# Altium schematic symbol library Connector.SchLib: 365 symbols (part 3 of 4)
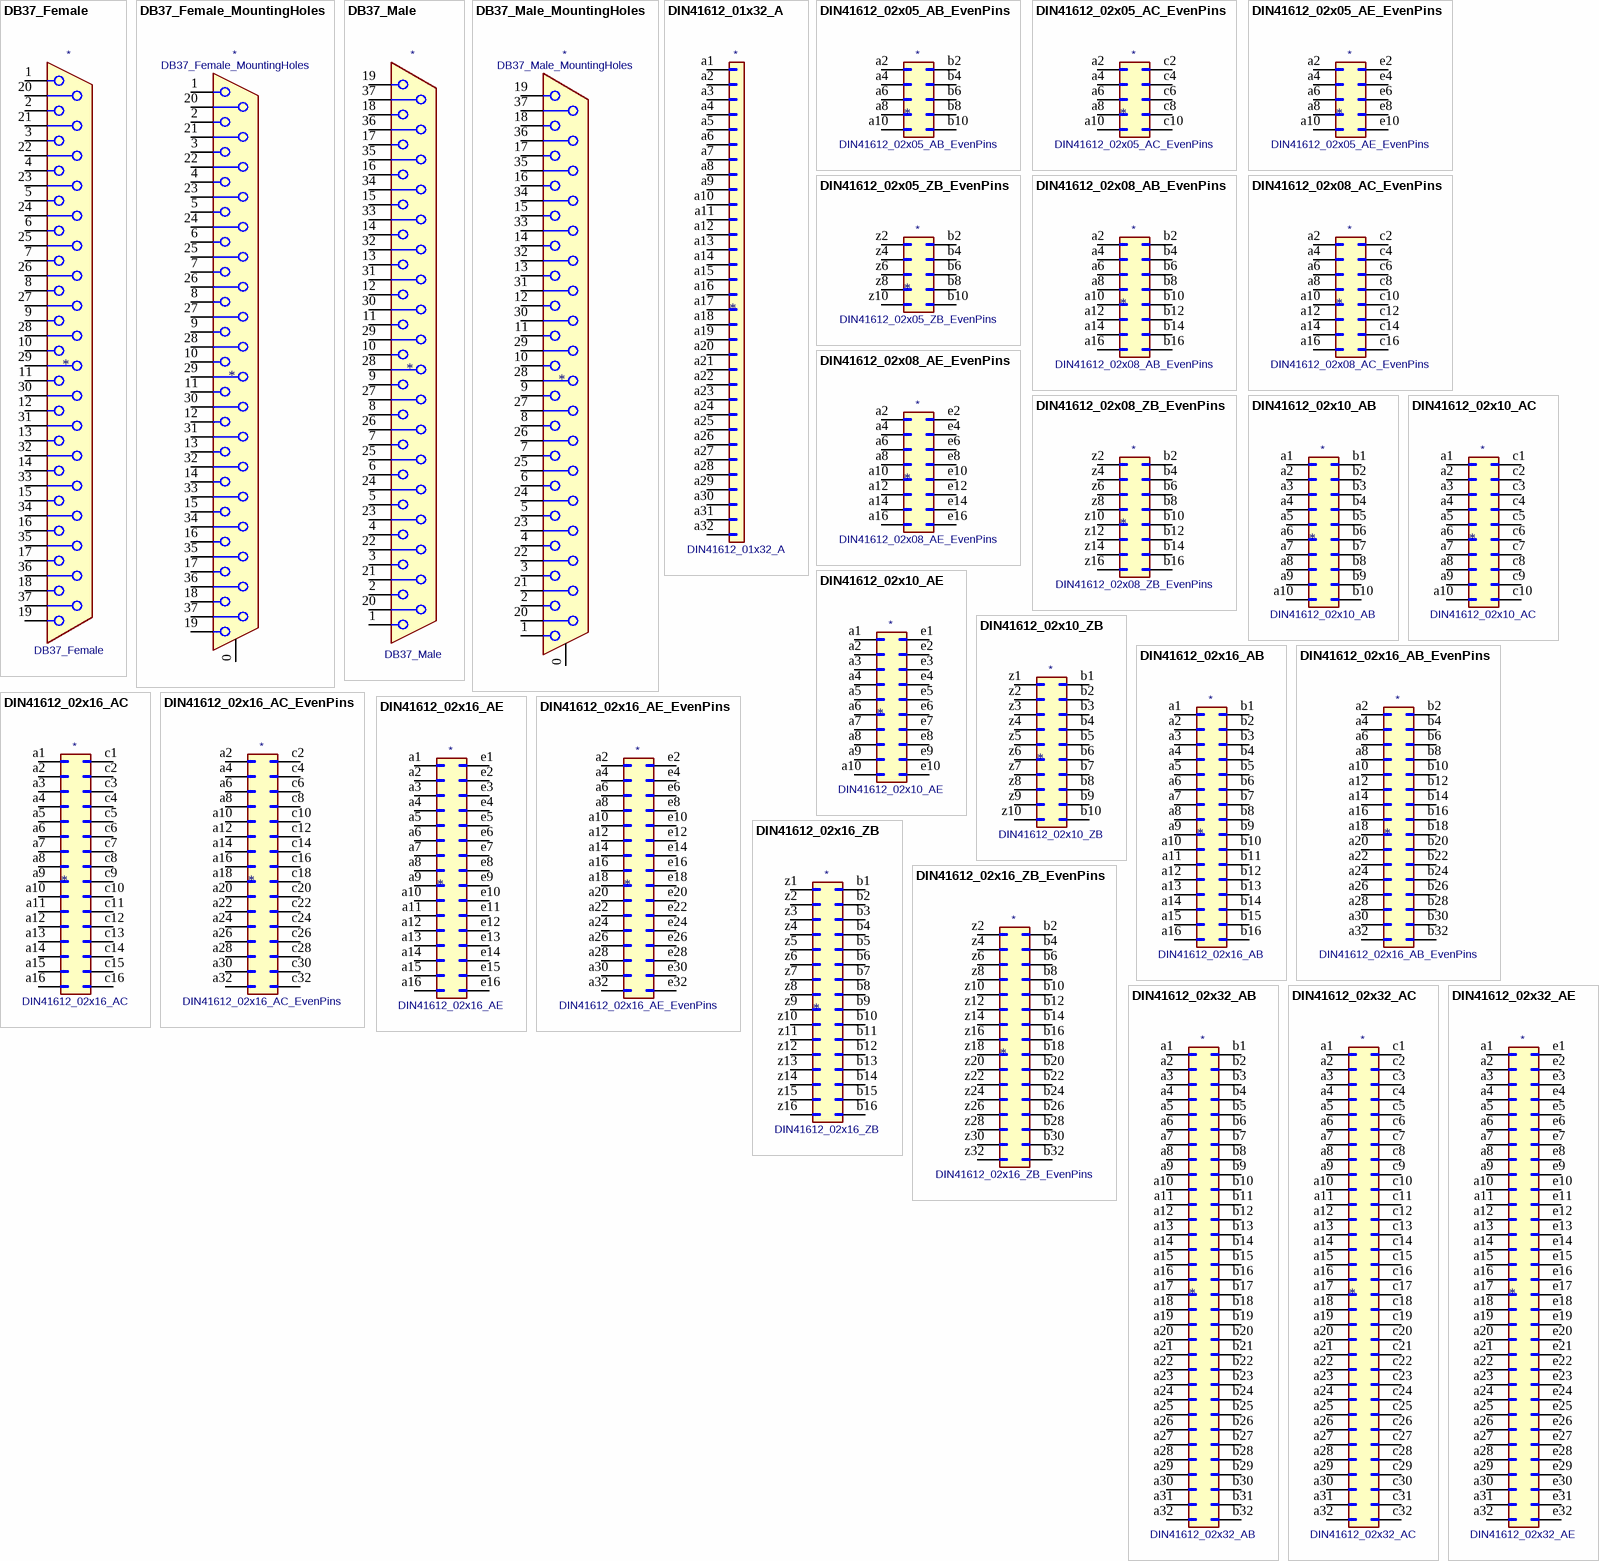
[diagram p16: symbols DB37_Female to DIN41612_02x32_AE]

## DIN41612_02x32_AE
designator *  value DIN41612_02x32_AE
ki_keywords: connector; ki_description: DIN41612 connector, double row (AE), 02x32, script generated (kicad-library-utils/schlib/autogen/connector/); ki_fp_filters: DIN41612*2x*; Supplier: ~
pins: a1 Pin_a1, a2 Pin_a2, a3 Pin_a3, a4 Pin_a4, a5 Pin_a5, a6 Pin_a6, a7 Pin_a7, a8 Pin_a8, a9 Pin_a9, a10 Pin_a10, a11 Pin_a11, a12 Pin_a12, a13 Pin_a13, a14 Pin_a14, a15 Pin_a15, a16 Pin_a16, a17 Pin_a17, a18 Pin_a18, a19 Pin_a19, a20 Pin_a20, a21 Pin_a21, a22 Pin_a22, a23 Pin_a23, a24 Pin_a24, a25 Pin_a25, a26 Pin_a26, a27 Pin_a27, a28 Pin_a28, a29 Pin_a29, a30 Pin_a30, a31 Pin_a31, a32 Pin_a32, e1 Pin_e1, e2 Pin_e2, e3 Pin_e3, e4 Pin_e4, e5 Pin_e5, e6 Pin_e6, e7 Pin_e7, e8 Pin_e8, e9 Pin_e9, e10 Pin_e10, e11 Pin_e11, e12 Pin_e12, e13 Pin_e13, e14 Pin_e14, e15 Pin_e15, e16 Pin_e16, e17 Pin_e17, e18 Pin_e18, e19 Pin_e19, e20 Pin_e20, e21 Pin_e21, e22 Pin_e22, e23 Pin_e23, e24 Pin_e24, e25 Pin_e25, e26 Pin_e26, e27 Pin_e27, e28 Pin_e28, e29 Pin_e29, e30 Pin_e30, e31 Pin_e31, e32 Pin_e32

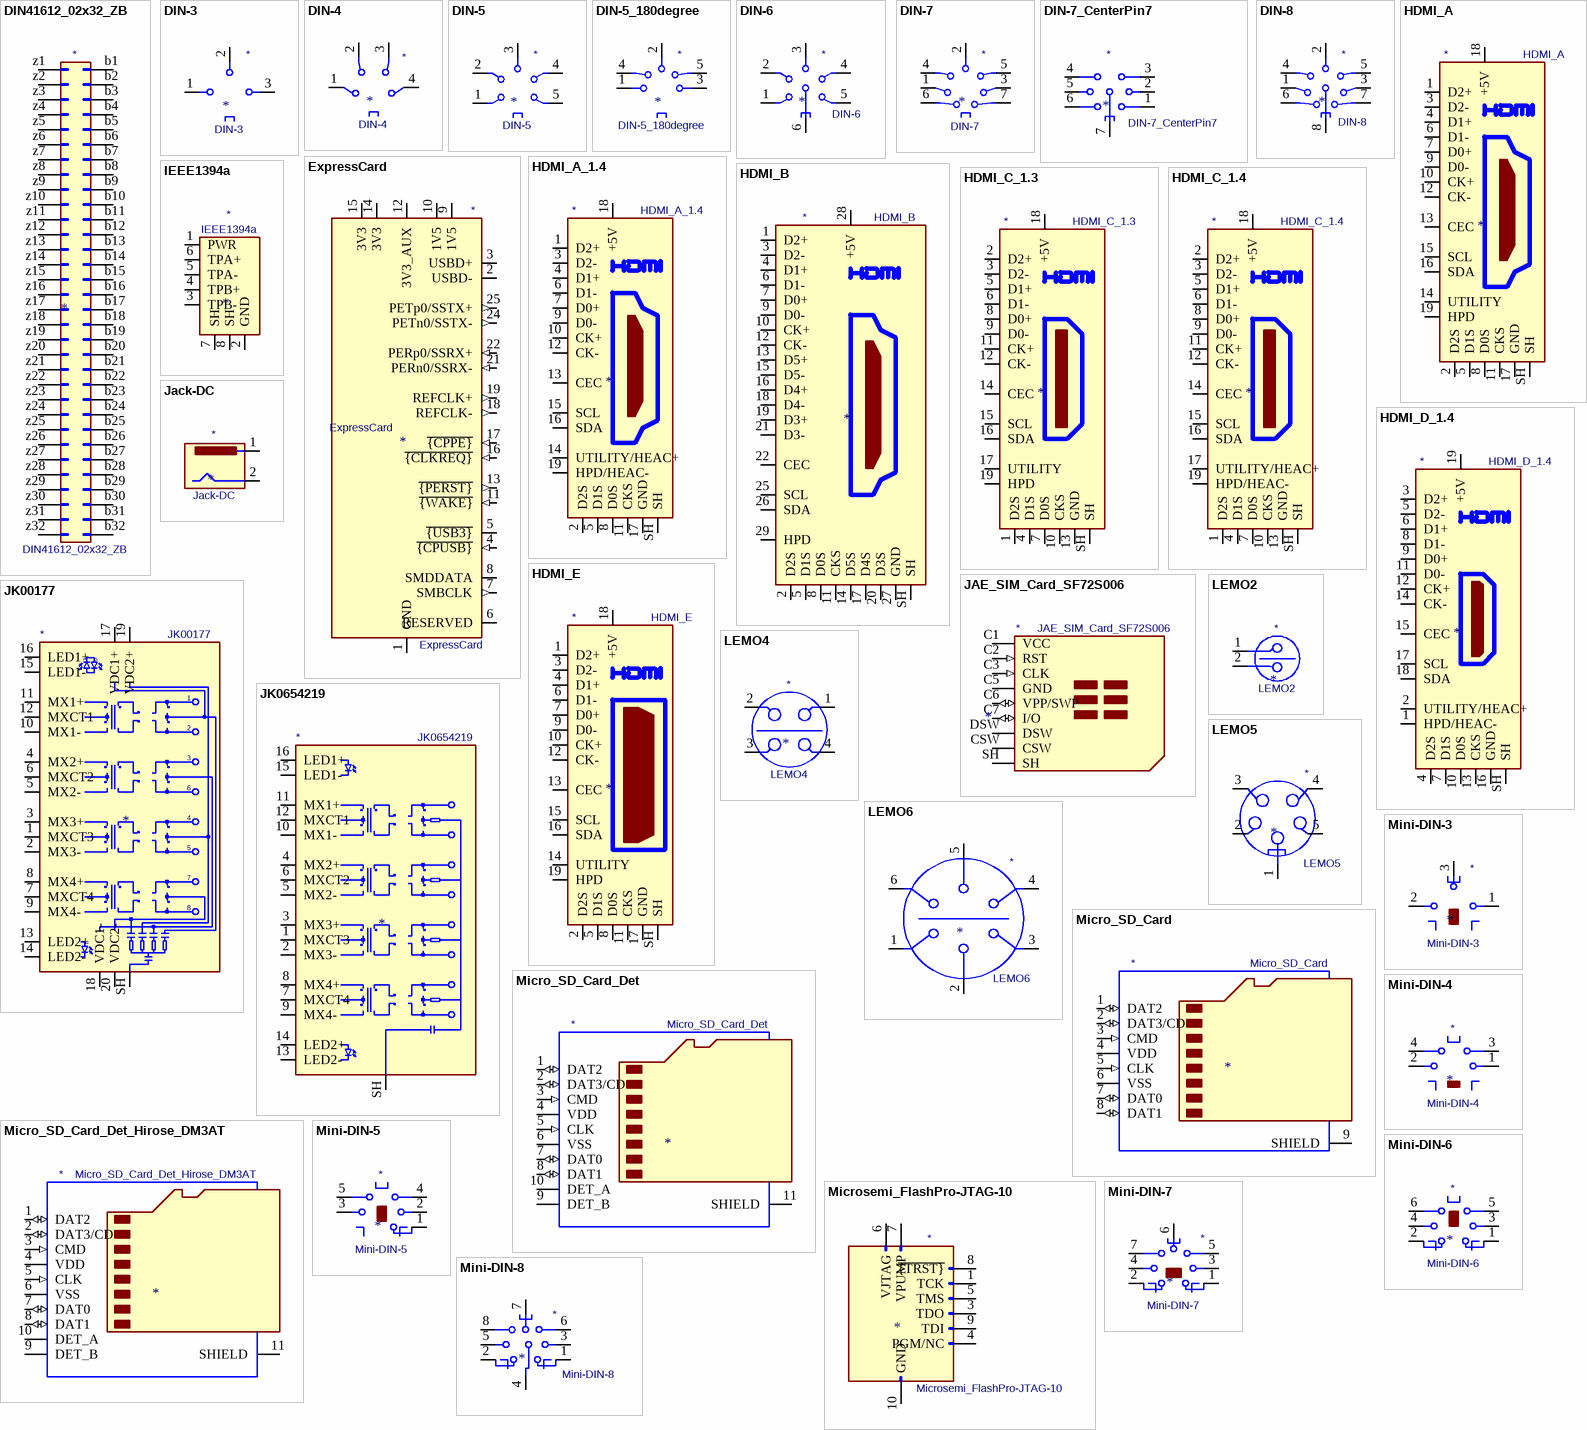
[diagram p8: symbols DIN41612_02x32_ZB to Mini-DIN-8]

## DIN41612_02x32_ZB
designator *  value DIN41612_02x32_ZB
ki_keywords: connector; ki_description: DIN41612 connector, double row (ZB), 02x32, script generated (kicad-library-utils/schlib/autogen/connector/); ki_fp_filters: DIN41612*2x*; Supplier: ~
pins: b1 Pin_b1, b2 Pin_b2, b3 Pin_b3, b4 Pin_b4, b5 Pin_b5, b6 Pin_b6, b7 Pin_b7, b8 Pin_b8, b9 Pin_b9, b10 Pin_b10, b11 Pin_b11, b12 Pin_b12, b13 Pin_b13, b14 Pin_b14, b15 Pin_b15, b16 Pin_b16, b17 Pin_b17, b18 Pin_b18, b19 Pin_b19, b20 Pin_b20, b21 Pin_b21, b22 Pin_b22, b23 Pin_b23, b24 Pin_b24, b25 Pin_b25, b26 Pin_b26, b27 Pin_b27, b28 Pin_b28, b29 Pin_b29, b30 Pin_b30, b31 Pin_b31, b32 Pin_b32, z1 Pin_z1, z2 Pin_z2, z3 Pin_z3, z4 Pin_z4, z5 Pin_z5, z6 Pin_z6, z7 Pin_z7, z8 Pin_z8, z9 Pin_z9, z10 Pin_z10, z11 Pin_z11, z12 Pin_z12, z13 Pin_z13, z14 Pin_z14, z15 Pin_z15, z16 Pin_z16, z17 Pin_z17, z18 Pin_z18, z19 Pin_z19, z20 Pin_z20, z21 Pin_z21, z22 Pin_z22, z23 Pin_z23, z24 Pin_z24, z25 Pin_z25, z26 Pin_z26, z27 Pin_z27, z28 Pin_z28, z29 Pin_z29, z30 Pin_z30, z31 Pin_z31, z32 Pin_z32

## DIN-3
designator *  value DIN-3
ki_keywords: circular DIN connector; ki_description: 3-pin DIN connector; ki_fp_filters: DIN*; Supplier: http://www.mouser.com/ds/2/18/40_c091_abd_e-75918.pdf
pins: 1, 2, 3

## DIN-4
designator *  value DIN-4
ki_keywords: circular DIN connector; ki_description: 4-pin DIN connector; ki_fp_filters: DIN*; Supplier: http://www.mouser.com/ds/2/18/40_c091_abd_e-75918.pdf
pins: 1, 2, 3, 4

## DIN-5
designator *  value DIN-5
ki_keywords: circular DIN connector; ki_description: 5-pin DIN connector; ki_fp_filters: DIN*; Supplier: http://www.mouser.com/ds/2/18/40_c091_abd_e-75918.pdf
pins: 1, 2, 3, 4, 5

## DIN-5_180degree
designator *  value DIN-5_180degree
ki_keywords: circular DIN connector stereo audio; ki_description: 5-pin DIN connector (5-pin DIN-5 stereo); ki_fp_filters: DIN*; Supplier: http://www.mouser.com/ds/2/18/40_c091_abd_e-75918.pdf
pins: 1, 2, 3, 4, 5

## DIN-6
designator *  value DIN-6
ki_keywords: circular DIN connector; ki_description: 6-pin DIN connector; ki_fp_filters: DIN*; Supplier: http://www.mouser.com/ds/2/18/40_c091_abd_e-75918.pdf
pins: 1, 2, 3, 4, 5, 6

## DIN-7
designator *  value DIN-7
ki_keywords: circular DIN connector; ki_description: 7-pin DIN connector; ki_fp_filters: DIN*; Supplier: http://www.mouser.com/ds/2/18/40_c091_abd_e-75918.pdf
pins: 1, 2, 3, 4, 5, 6, 7

## DIN-7_CenterPin7
designator *  value DIN-7_CenterPin7
ki_keywords: circular DIN connector; ki_description: 7-pin DIN connector with pin 7 in center; ki_fp_filters: DIN*; Supplier: http://www.mouser.com/ds/2/18/40_c091_abd_e-75918.pdf
pins: 1, 2, 3, 4, 5, 6, 7

## DIN-8
designator *  value DIN-8
ki_keywords: circular DIN connector; ki_description: 8-pin DIN connector; ki_fp_filters: DIN*; Supplier: http://www.mouser.com/ds/2/18/40_c091_abd_e-75918.pdf
pins: 1, 2, 3, 4, 5, 6, 7, 8

## ExpressCard
designator *  value ExpressCard
ki_keywords: expresscard pci express; ki_description: ExpressCard connector; ki_fp_filters: ExpressCard*; Supplier: https://web.archive.org/web/20180809060653/http://www.usb.org/developers/expresscard/EC_specifications/ExpressCard_2_0_FINAL.pdf
pins: 1 GND (power), 2 USBD- (io), 3 USBD+ (io), 4 ~{{CPUSB}} (in), 5 ~{{USB3}} (io), 6 RESERVED, 7 SMBCLK (out), 8 SMDDATA (io), 9 1V5 (power), 10 1V5 (power), 11 ~{{WAKE}} (in), 12 3V3_AUX (power), 13 ~{{PERST}} (out), 14 3V3 (power), 15 3V3 (power), 16 ~{{CLKREQ}} (in), 17 ~{{CPPE}} (in), 18 REFCLK- (out), 19 REFCLK+ (out), 20 GND hidden, 21 PERn0/SSRX- (in), 22 PERp0/SSRX+ (in), 23 GND hidden, 24 PETn0/SSTX- (out), 25 PETp0/SSTX+ (out), 26 GND hidden

## HDMI_A
designator *  value HDMI_A
ki_keywords: hdmi conn; ki_description: HDMI type A connector; ki_fp_filters: HDMI*A*; Supplier: https://en.wikipedia.org/wiki/HDMI
pins: 1 D2+, 2 D2S (power), 3 D2-, 4 D1+, 5 D1S (power), 6 D1-, 7 D0+, 8 D0S (power), 9 D0-, 10 CK+, 11 CKS (power), 12 CK-, 13 CEC (io), 14 UTILITY, 15 SCL, 16 SDA (io), 17 GND (power), 18 +5V (power), 19 HPD, SH

## HDMI_A_1.4
designator *  value HDMI_A_1.4
ki_keywords: hdmi conn; ki_description: HDMI 1.4+ type A connector; ki_fp_filters: HDMI*A*; Supplier: https://en.wikipedia.org/wiki/HDMI
pins: 1 D2+, 2 D2S (power), 3 D2-, 4 D1+, 5 D1S (power), 6 D1-, 7 D0+, 8 D0S (power), 9 D0-, 10 CK+, 11 CKS (power), 12 CK-, 13 CEC (io), 14 UTILITY/HEAC+, 15 SCL, 16 SDA (io), 17 GND (power), 18 +5V (power), 19 HPD/HEAC-, SH

## HDMI_B
designator *  value HDMI_B
ki_keywords: hdmi conn; ki_description: HDMI type B connector; ki_fp_filters: HDMI*B*; Supplier: http://pinouts.ru/Video/hdmi_pinout.shtml
pins: 1 D2+, 2 D2S (power), 3 D2-, 4 D1+, 5 D1S (power), 6 D1-, 7 D0+, 8 D0S (power), 9 D0-, 10 CK+, 11 CKS (power), 12 CK-, 13 D5+, 14 D5S (power), 15 D5-, 16 D4+, 17 D4S (power), 18 D4-, 19 D3+, 20 D3S (power), 21 D3-, 22 CEC (io), 23 NC (in) hidden, 24 NC (in) hidden, 25 SCL, 26 SDA (io), 27 GND (power), 28 +5V (power), 29 HPD, SH

## HDMI_C_1.3
designator *  value HDMI_C_1.3
ki_keywords: hdmi conn; ki_description: HDMI 1.3+ type C connector; ki_fp_filters: HDMI*C*; Supplier: http://pinoutguide.com/PortableDevices/mini_hdmi_pinout.shtml
pins: 1 D2S (power), 2 D2+, 3 D2-, 4 D1S (power), 5 D1+, 6 D1-, 7 D0S (power), 8 D0+, 9 D0-, 10 CKS (power), 11 CK+, 12 CK-, 13 GND (power), 14 CEC (io), 15 SCL, 16 SDA (io), 17 UTILITY, 18 +5V (power), 19 HPD, SH

## HDMI_C_1.4
designator *  value HDMI_C_1.4
ki_keywords: hdmi conn; ki_description: HDMI 1.4+ type C connector; ki_fp_filters: HDMI*C*; Supplier: http://pinoutguide.com/PortableDevices/mini_hdmi_pinout.shtml
pins: 1 D2S (power), 2 D2+, 3 D2-, 4 D1S (power), 5 D1+, 6 D1-, 7 D0S (power), 8 D0+, 9 D0-, 10 CKS (power), 11 CK+, 12 CK-, 13 GND (power), 14 CEC (io), 15 SCL, 16 SDA (io), 17 UTILITY/HEAC+, 18 +5V (power), 19 HPD/HEAC-, SH

## HDMI_D_1.4
designator *  value HDMI_D_1.4
ki_keywords: hdmi conn; ki_description: HDMI 1.4+ type D connector; ki_fp_filters: HDMI*D*; Supplier: http://pinoutguide.com/PortableDevices/micro_hdmi_type_d_pinout.shtml
pins: 1 HPD/HEAC-, 2 UTILITY/HEAC+, 3 D2+, 4 D2S (power), 5 D2-, 6 D1+, 7 D1S (power), 8 D1-, 9 D0+, 10 D0S (power), 11 D0-, 12 CK+, 13 CKS (power), 14 CK-, 15 CEC (io), 16 GND (power), 17 SCL, 18 SDA (io), 19 +5V (power), SH

## HDMI_E
designator *  value HDMI_E
ki_keywords: hdmi conn; ki_description: HDMI type E connector; ki_fp_filters: HDMI*E*; Supplier: https://www.hdmi.org/manufacturer/specification.aspx
pins: 1 D2+, 2 D2S (power), 3 D2-, 4 D1+, 5 D1S (power), 6 D1-, 7 D0+, 8 D0S (power), 9 D0-, 10 CK+, 11 CKS (power), 12 CK-, 13 CEC (io), 14 UTILITY, 15 SCL, 16 SDA (io), 17 GND (power), 18 +5V (power), 19 HPD, SH

## IEEE1394a
designator *  value IEEE1394a
ki_keywords: connector IEEE1394a FireWire; ki_description: FireWire/IEEE1394a 6-pin connector; Supplier: ~
pins: 1 PWR (power), 2 GND (power), 3 TPB- (io), 4 TPB+ (io), 5 TPA- (io), 6 TPA+ (io), 7 SH, 8 SH

## Jack-DC
designator *  value Jack-DC
ki_keywords: DC power barrel jack connector; ki_description: DC Barrel Jack; ki_fp_filters: BarrelJack*; Supplier: ~
pins: 1, 2

## JAE_SIM_Card_SF72S006
designator *  value JAE_SIM_Card_SF72S006
ki_keywords: SIM card UICC 4FF; ki_description: Nano-SIM Card (4FF) connector with Detect Switch; ki_fp_filters: JAE*SIM*Card*SF72S006*; Footprint: Connector_JAE:JAE_SIM_Card_SF72S006; Supplier: https://www.jae.com/direct/topics/topics_file_download/topics_id=68892&ext_no=06&index=0&_lang=en&v=202003111511468456809
footprint JAE_SIM_Card_SF72S006
pins: C1 VCC (power), C2 RST (in), C3 CLK (in), C5 GND (power), C6 VPP/SWP (io), C7 I/O (io), CSW, DSW, SH

## JK00177
designator *  value JK00177
ki_keywords: 8P8C RJ female connector POE; ki_description: 1 Port RJ45 Magjack Connector Through Hole 10/100/1000 Base-T, AutoMDIX, 75W POE; ki_fp_filters: RJ45*Pulse*JK00177NL*; Footprint: Connector_RJ:RJ45_Pulse_JK00177NL_Horizontal; Supplier: https://productfinder.pulseeng.com/doc_type/WEB301/doc_num/J432/doc_part/J432.pdf
footprint RJ45_Pulse_JK00177NL_Horizontal
pins: 1 MXCT3, 2 MX3-, 3 MX3+, 4 MX2+, 5 MX2-, 6 MXCT2, 7 MXCT4, 8 MX4+, 9 MX4-, 10 MX1-, 11 MX1+, 12 MXCT1, 13 LED2+, 14 LED2-, 15 LED1-, 16 LED1+, 17 VDC1+, 18 VDC1-, 19 VDC2+, 20 VDC2-, SH
text: Y; G

## JK0654219
designator *  value JK0654219
ki_keywords: 8P8C RJ female connector; ki_description: 1 Port RJ45 Magjack Connector Through Hole 10/100/1000 Base-T, AutoMDIX; ki_fp_filters: RJ45*Pulse*JK0654219NL*; Footprint: Connector_RJ:RJ45_Pulse_JK0654219NL_Horizontal; Supplier: https://media.digikey.com/pdf/Data%20Sheets/Pulse%20PDFs/JK%20Series.pdf
footprint RJ45_Pulse_JK0654219NL_Horizontal
pins: 1 MXCT3, 2 MX3-, 3 MX3+, 4 MX2+, 5 MX2-, 6 MXCT2, 7 MXCT4, 8 MX4+, 9 MX4-, 10 MX1-, 11 MX1+, 12 MXCT1, 13 LED2-, 14 LED2+, 15 LED1-, 16 LED1+, SH

## LEMO2
designator *  value LEMO2
ki_keywords: LEMO connector; ki_description: 2-pin LEMO connector; Supplier: ~
pins: 1, 2

## LEMO4
designator *  value LEMO4
ki_keywords: LEMO connector; ki_description: 4-pin LEMO connector; Supplier: ~
pins: 1, 2, 3, 4

## LEMO5
designator *  value LEMO5
ki_keywords: LEMO connector; ki_description: 5-pin LEMO connector; Supplier: ~
pins: 1, 2, 3, 4, 5

## LEMO6
designator *  value LEMO6
ki_keywords: LEMO connector; ki_description: 6-pin LEMO connector; Supplier: ~
pins: 1, 2, 3, 4, 5, 6

## Micro_SD_Card
designator *  value Micro_SD_Card
ki_keywords: connector SD microsd; ki_description: Micro SD Card Socket; ki_fp_filters: microSD*; Supplier: http://katalog.we-online.de/em/datasheet/693072010801.pdf
pins: 1 DAT2 (io), 2 DAT3/CD (io), 3 CMD (in), 4 VDD (power), 5 CLK (in), 6 VSS (power), 7 DAT0 (io), 8 DAT1 (io), 9 SHIELD

## Micro_SD_Card_Det
designator *  value Micro_SD_Card_Det
ki_keywords: connector SD microsd; ki_description: Micro SD Card Socket with card detection pins; ki_fp_filters: microSD*; Supplier: https://www.hirose.com/product/en/download_file/key_name/DM3/category/Catalog/doc_file_id/49662/?file_category_id=4&item_id=195&is_series=1
pins: 1 DAT2 (io), 2 DAT3/CD (io), 3 CMD (in), 4 VDD (power), 5 CLK (in), 6 VSS (power), 7 DAT0 (io), 8 DAT1 (io), 9 DET_B, 10 DET_A, 11 SHIELD

## Micro_SD_Card_Det_Hirose_DM3AT
designator *  value Micro_SD_Card_Det_Hirose_DM3AT
ki_keywords: connector SD microsd; ki_description: Micro SD Card Socket with card detection pins; ki_fp_filters: microSD*; Supplier: https://www.hirose.com/product/en/download_file/key_name/DM3/category/Catalog/doc_file_id/49662/?file_category_id=4&item_id=195&is_series=1
pins: 1 DAT2 (io), 2 DAT3/CD (io), 3 CMD (in), 4 VDD (power), 5 CLK (in), 6 VSS (power), 7 DAT0 (io), 8 DAT1 (io), 9 DET_B, 10 DET_A, 11 SHIELD

## Microsemi_FlashPro-JTAG-10
designator *  value Microsemi_FlashPro-JTAG-10
ki_keywords: JTAG IDC10 Male Connector; ki_description: ACTEL FLASH PRO 3/4, JTAG, IDC10 Male Connector; ki_fp_filters: IDC?Header*2x05* Pin?Header*2x05*; Supplier: https://www.microsemi.com/document-portal/doc_view/129973-lpf-ac386-an
pins: 1 TCK, 2 GND hidden, 3 TDO, 4 PGM/NC, 5 TMS, 6 VJTAG (power), 7 VPUMP (power), 8 ~{{TRST}}, 9 TDI, 10 GND (power)

## Mini-DIN-3
designator *  value Mini-DIN-3
ki_keywords: Mini-DIN; ki_description: 3-pin Mini-DIN connector; ki_fp_filters: MINI?DIN*; Supplier: http://www.assmann-wsw.com/fileadmin/catalogue/10_MiniDIN_rev4-0.pdf
pins: 1, 2, 3

## Mini-DIN-4
designator *  value Mini-DIN-4
ki_keywords: Mini-DIN; ki_description: 4-pin Mini-DIN connector; ki_fp_filters: MINI?DIN*; Supplier: http://service.powerdynamics.com/ec/Catalog17/Section%2011.pdf
pins: 1, 2, 3, 4

## Mini-DIN-5
designator *  value Mini-DIN-5
ki_keywords: Mini-DIN; ki_description: 5-pin Mini-DIN connector; ki_fp_filters: MINI?DIN*; Supplier: http://service.powerdynamics.com/ec/Catalog17/Section%2011.pdf
pins: 1, 2, 3, 4, 5

## Mini-DIN-6
designator *  value Mini-DIN-6
ki_keywords: Mini-DIN; ki_description: 6-pin Mini-DIN connector; ki_fp_filters: MINI?DIN*; Supplier: http://service.powerdynamics.com/ec/Catalog17/Section%2011.pdf
pins: 1, 2, 3, 4, 5, 6

## Mini-DIN-7
designator *  value Mini-DIN-7
ki_keywords: Mini-DIN; ki_description: 7-pin Mini-DIN connector; ki_fp_filters: MINI?DIN*; Supplier: http://service.powerdynamics.com/ec/Catalog17/Section%2011.pdf
pins: 1, 2, 3, 4, 5, 6, 7

## Mini-DIN-8
designator *  value Mini-DIN-8
ki_keywords: Mini-DIN; ki_description: 8-pin Mini-DIN connector; ki_fp_filters: MINI?DIN*; Supplier: http://service.powerdynamics.com/ec/Catalog17/Section%2011.pdf
pins: 1, 2, 3, 4, 5, 6, 7, 8

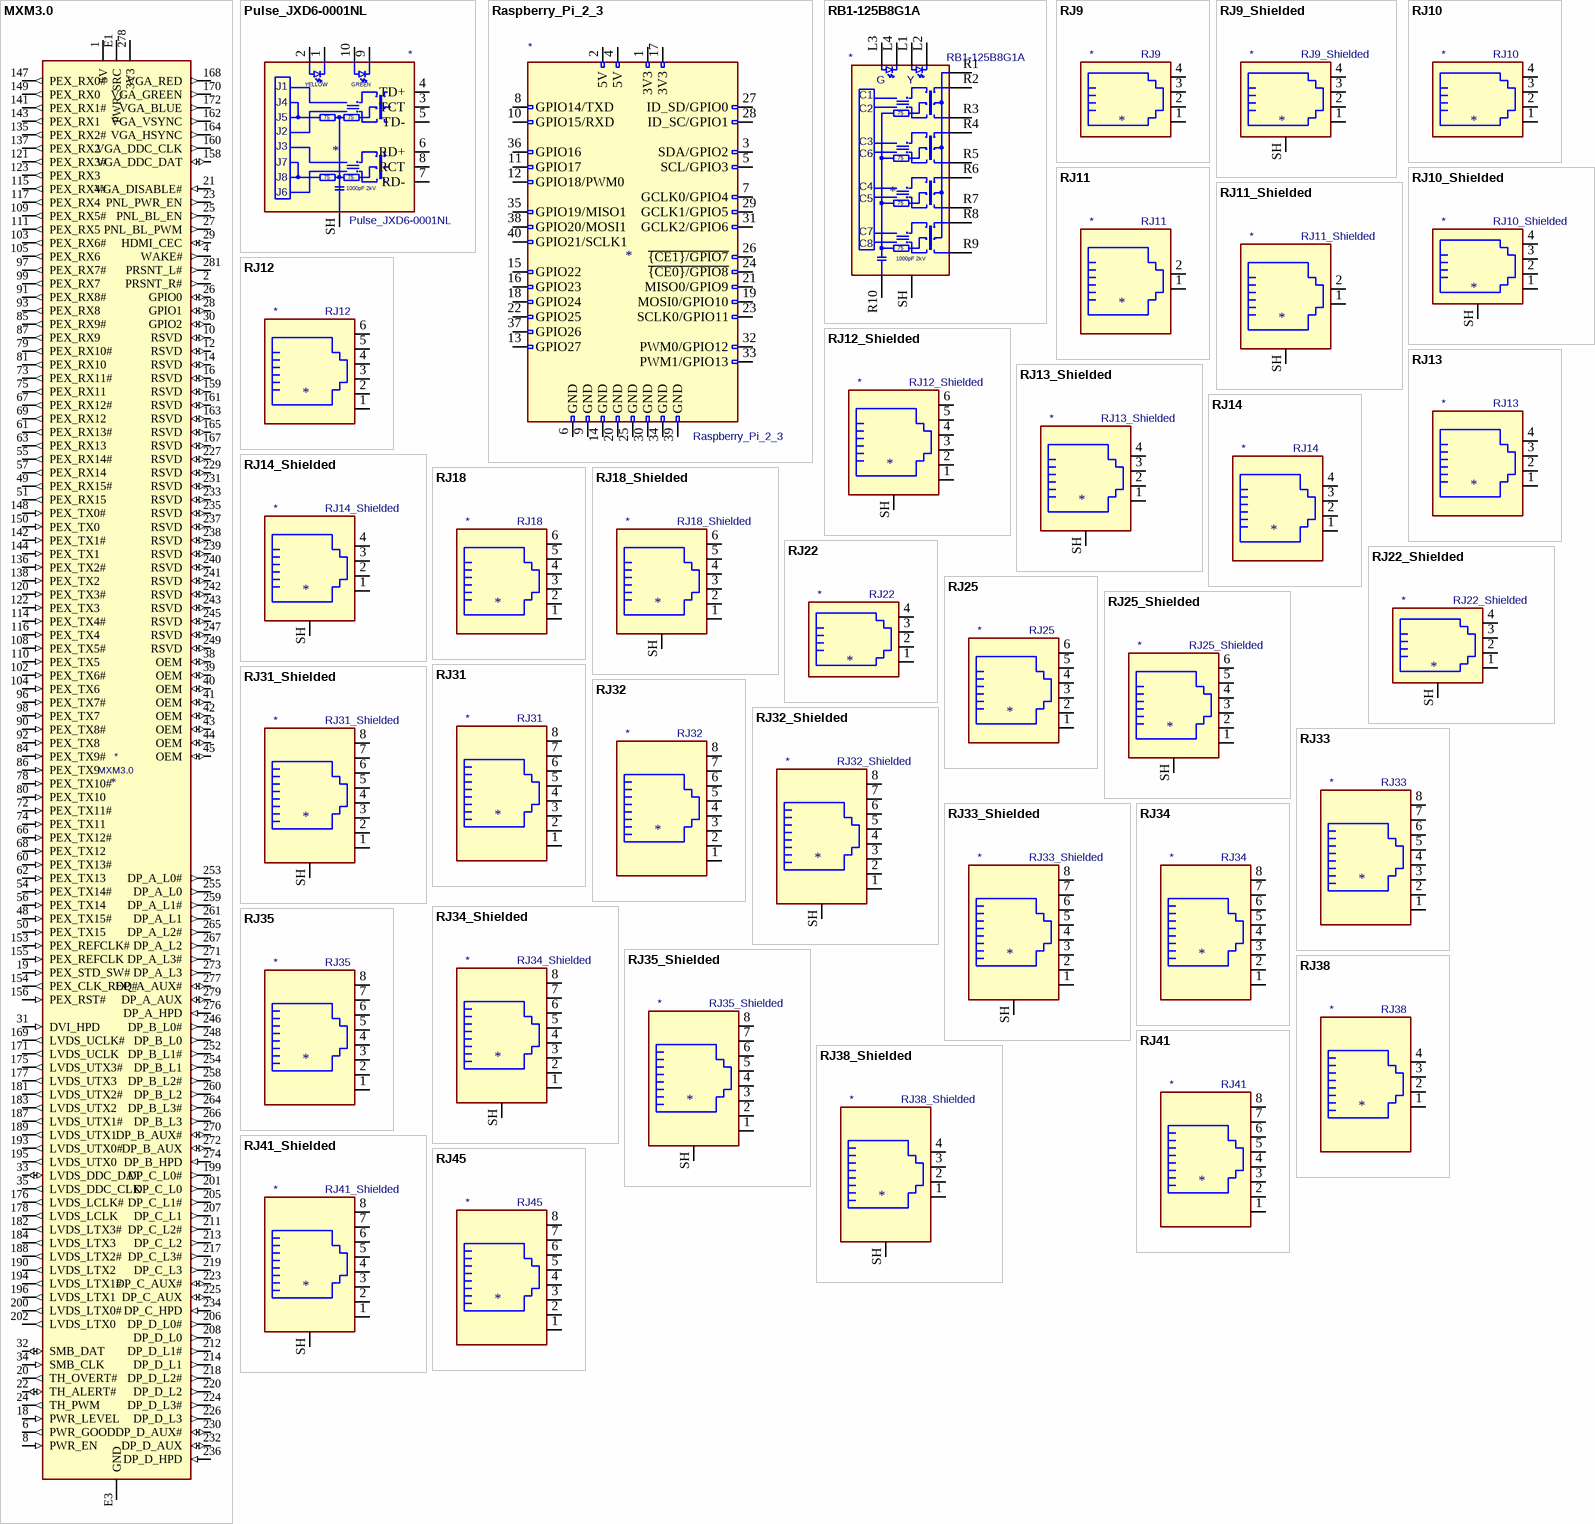
[diagram p9: symbols MXM3.0 to RJ45]

## MXM3.0
designator *  value MXM3.0
ki_keywords: MXM connector; ki_description: MXM3.0 connector; ki_fp_filters: *MM70*; Supplier: ~
pins: 1 5V (power), 2 PRSNT_R# (out), 3 5V hidden, 4 WAKE# (out), 5 5V hidden, 6 PWR_GOOD (out), 7 5V hidden, 8 PWR_EN (in), 9 5V hidden, 10 RSVD (io), 11 GND hidden, 12 RSVD (io), 13 GND hidden, 14 RSVD (io), 15 GND hidden, 16 RSVD (io), 17 GND hidden, 18 PWR_LEVEL (in), 19 PEX_STD_SW# (in), 20 TH_OVERT# (out), 21 VGA_DISABLE# (in), 22 TH_ALERT# (io), 23 PNL_PWR_EN (out), 24 TH_PWM (out), 25 PNL_BL_EN (out), 26 GPIO0 (io), 27 PNL_BL_PWM (out), 28 GPIO1 (io), 29 HDMI_CEC (io), 30 GPIO2 (io), 31 DVI_HPD (in), 32 SMB_DAT (io), 33 LVDS_DDC_DAT (io), 34 SMB_CLK (in), 35 LVDS_DDC_CLK (out), 36 GND hidden, 37 GND hidden, 38 OEM (io), 39 OEM (io), 40 OEM (io), 41 OEM (io), 42 OEM (io), 43 OEM (io), 44 OEM (io), 45 OEM (io), 46 GND hidden, 47 GND hidden, 48 PEX_TX15# (in), 49 PEX_RX15# (out), 50 PEX_TX15 (in), 51 PEX_RX15 (out), 52 GND hidden, 53 GND hidden, 54 PEX_TX14# (in), 55 PEX_RX14# (out), 56 PEX_TX14 (in), 57 PEX_RX14 (out), 58 GND hidden, 59 GND hidden, 60 PEX_TX13# (in), 61 PEX_RX13# (out), 62 PEX_TX13 (in), 63 PEX_RX13 (out), 64 GND hidden, 65 GND hidden, 66 PEX_TX12# (in), 67 PEX_RX12# (out), 68 PEX_TX12 (in), 69 PEX_RX12 (out), 70 GND hidden, 71 GND hidden, 72 PEX_TX11# (in), 73 PEX_RX11# (out), 74 PEX_TX11 (in), 75 PEX_RX11 (out), 76 GND hidden, 77 GND hidden, 78 PEX_TX10# (in), 79 PEX_RX10# (out), 80 PEX_TX10 (in), 81 PEX_RX10 (out), 82 GND hidden, 83 GND hidden, 84 PEX_TX9# (in), 85 PEX_RX9# (out), 86 PEX_TX9 (in), 87 PEX_RX9 (out), 88 GND hidden, 89 GND hidden, 90 PEX_TX8# (in), 91 PEX_RX8# (out), 92 PEX_TX8 (in), 93 PEX_RX8 (out), 94 GND hidden, 95 GND hidden, 96 PEX_TX7# (in), 97 PEX_RX7# (out), 98 PEX_TX7 (in), 99 PEX_RX7 (out), 100 GND hidden, 101 GND hidden, 102 PEX_TX6# (in), 103 PEX_RX6# (out), 104 PEX_TX6 (in), 105 PEX_RX6 (out), 106 GND hidden, 107 GND hidden, 108 PEX_TX5# (in), 109 PEX_RX5# (out), 110 PEX_TX5 (in), 111 PEX_RX5 (out), 112 GND hidden, 113 GND hidden, 114 PEX_TX4# (in), 115 PEX_RX4# (out), 116 PEX_TX4 (in), 117 PEX_RX4 (out), 118 GND hidden, 119 GND hidden, 120 PEX_TX3# (in), 121 PEX_RX3# (out), 122 PEX_TX3 (in), 123 PEX_RX3 (out), 124 GND hidden, 125 GND hidden, 133 GND hidden, 134 GND hidden, 135 PEX_RX2# (out), 136 PEX_TX2# (in), 137 PEX_RX2 (out), 138 PEX_TX2 (in), 139 GND hidden, 140 GND hidden, 141 PEX_RX1# (out), 142 PEX_TX1# (in), 143 PEX_RX1 (out), 144 PEX_TX1 (in), 145 GND hidden, 146 GND hidden, 147 PEX_RX0# (out), 148 PEX_TX0# (in), 149 PEX_RX0 (out), 150 PEX_TX0 (in), 151 GND hidden, 152 GND hidden, 153 PEX_REFCLK# (in), 154 PEX_CLK_REQ# (out), 155 PEX_REFCLK (in), 156 PEX_RST# (in), 157 GND hidden, 158 VGA_DDC_DAT (io), 159 RSVD (io), 160 VGA_DDC_CLK (out), 161 RSVD (io), 162 VGA_VSYNC (out), 163 RSVD (io), 164 VGA_HSYNC (out), 165 RSVD (io), 166 GND hidden, 167 RSVD (io), 168 VGA_RED (out), 169 LVDS_UCLK# (out), 170 VGA_GREEN (out), 171 LVDS_UCLK (out), 172 VGA_BLUE (out), 173 GND hidden, 174 GND hidden, 175 LVDS_UTX3# (out), 176 LVDS_LCLK# (out), 177 LVDS_UTX3 (out), 178 LVDS_LCLK (out), 179 GND hidden, 180 GND hidden, 181 LVDS_UTX2# (out), 182 LVDS_LTX3# (out), 183 LVDS_UTX2 (out), 184 LVDS_LTX3 (out), 185 GND hidden, 186 GND hidden, 187 LVDS_UTX1# (out), 188 LVDS_LTX2# (out), 189 LVDS_UTX1 (out), 190 LVDS_LTX2 (out), 191 GND hidden, 192 GND hidden, 193 LVDS_UTX0# (out), 194 LVDS_LTX1# (out), 195 LVDS_UTX0 (out), 196 LVDS_LTX1 (out), 197 GND hidden, 198 GND hidden, 199 DP_C_L0# (out), 200 LVDS_LTX0# (out), 201 DP_C_L0 (out), 202 LVDS_LTX0 (out), 203 GND hidden, 204 GND hidden, 205 DP_C_L1# (out), 206 DP_D_L0# (out), 207 DP_C_L1 (out), 208 DP_D_L0 (out), 209 GND hidden, 210 GND hidden, 211 DP_C_L2# (out), 212 DP_D_L1# (out), 213 DP_C_L2 (out), 214 DP_D_L1 (out), 215 GND hidden, 216 GND hidden, 217 DP_C_L3# (out), 218 DP_D_L2# (out), 219 DP_C_L3 (out), 220 DP_D_L2 (out), 221 GND hidden, 222 GND hidden, 223 DP_C_AUX# (io), 224 DP_D_L3# (out), 225 DP_C_AUX (io), 226 DP_D_L3 (out), 227 RSVD (io), 228 GND hidden, 229 RSVD (io), 230 DP_D_AUX# (io), 231 RSVD (io), 232 DP_D_AUX (io), 233 RSVD (io), 234 DP_C_HPD (in), 235 RSVD (io), 236 DP_D_HPD (in), 237 RSVD (io), 238 RSVD (io), 239 RSVD (io), 240 RSVD (io), 241 RSVD (io), 242 RSVD (io), 243 RSVD (io), 244 GND hidden, 245 RSVD (io), 246 DP_B_L0# (out), 247 RSVD (io), 248 DP_B_L0 (out), 249 RSVD (io), 250 GND hidden, 251 GND hidden, 252 DP_B_L1# (out), 253 DP_A_L0# (out), 254 DP_B_L1 (out), 255 DP_A_L0 (out), 256 GND hidden, 257 GND hidden, 258 DP_B_L2# (out), 259 DP_A_L1# (out), 260 DP_B_L2 (out), 261 DP_A_L1 (out), 262 GND hidden, 263 GND hidden, 264 DP_B_L3# (out), 265 DP_A_L2# (out), 266 DP_B_L3 (out), 267 DP_A_L2 (out), 268 GND hidden, 269 GND hidden, 270 DP_B_AUX# (io), 271 DP_A_L3# (out), 272 DP_B_AUX (io), 273 DP_A_L3 (out), 274 DP_B_HPD (in), 275 GND hidden, 276 DP_A_HPD (in), 277 DP_A_AUX# (io), 278 3V3 (power), 279 DP_A_AUX (io), 280 3V3 hidden, 281 PRSNT_L# (out), E1 PWR_SRC (power), E2 PWR_SRC hidden, E3 GND (power), E4 GND hidden

## Pulse_JXD6-0001NL
designator *  value Pulse_JXD6-0001NL
ki_keywords: lan jack transformer; ki_description: LAN Transformer Jack, RJ45, 10/100 BaseT; ki_fp_filters: RJ45*Pulse*JXD6?0001NL*; Footprint: Connector_RJ:RJ45_Pulse_JXD6-0001NL_Horizontal; Supplier: https://productfinder.pulseeng.com/doc_type/WEB301/doc_num/JXD6-0001NL/doc_part/JXD6-0001NL.pdf
footprint RJ45_Pulse_JXD6-0001NL_Horizontal
pins: 1, 2, 3 TCT, 4 TD+, 5 TD-, 6 RD+, 7 RD-, 8 RCT, 9, 10, SH
text: J1; YELLOW; GREEN; J4; J5; 75; J2; J3; J7; J8; J6; 1000pF 2kV

## Raspberry_Pi_2_3
designator *  value Raspberry_Pi_2_3
ki_keywords: raspberrypi gpio; ki_description: expansion header for Raspberry Pi 2 & 3; ki_fp_filters: PinHeader*2x20*P2.54mm*Vertical* PinSocket*2x20*P2.54mm*Vertical*; Supplier: https://www.raspberrypi.org/documentation/hardware/raspberrypi/schematics/rpi_SCH_3bplus_1p0_reduced.pdf
pins: 1 3V3 (power), 2 5V (power), 3 SDA/GPIO2 (io), 4 5V (power), 5 SCL/GPIO3 (io), 6 GND (power), 7 GCLK0/GPIO4 (io), 8 GPIO14/TXD (io), 9 GND (power), 10 GPIO15/RXD (io), 11 GPIO17 (io), 12 GPIO18/PWM0 (io), 13 GPIO27 (io), 14 GND (power), 15 GPIO22 (io), 16 GPIO23 (io), 17 3V3 (power), 18 GPIO24 (io), 19 MOSI0/GPIO10 (io), 20 GND (power), 21 MISO0/GPIO9 (io), 22 GPIO25 (io), 23 SCLK0/GPIO11 (io), 24 ~{{CE0}/GPIO8} (io), 25 GND (power), 26 ~{{CE1}/GPIO7} (io), 27 ID_SD/GPIO0 (io), 28 ID_SC/GPIO1 (io), 29 GCLK1/GPIO5 (io), 30 GND (power), 31 GCLK2/GPIO6 (io), 32 PWM0/GPIO12 (io), 33 PWM1/GPIO13 (io), 34 GND (power), 35 GPIO19/MISO1 (io), 36 GPIO16 (io), 37 GPIO26 (io), 38 GPIO20/MOSI1 (io), 39 GND (power), 40 GPIO21/SCLK1 (io)

## RB1-125B8G1A
designator *  value RB1-125B8G1A
ki_keywords: lan jack transformer ethernet gigabit 10 100 1000 baset; ki_description: LAN Transformer Jack, RJ45, 10/100/1000 BaseT; ki_fp_filters: RJ45*UDE*RB1*125B8G1A*; Footprint: Connector_RJ:RJ45_UDE_RB1-125B8G1A; Supplier: https://datasheet.lcsc.com/szlcsc/1901091107_UDE-Corp-RB1-125B8G1A_C363353.pdf
footprint RJ45_UDE_RB1-125B8G1A
pins: L1, L2, L3, L4, R1 CT, R2 TD1+, R3 TD1-, R4 TD2+, R5 TD2-, R6 TD3+, R7 TD3-, R8 TD4+, R9 TD4-, R10 GND (power), SH
text: G; Y; C1; C2; 75; C3; C6; C4; C5; C7; C8; 1000pF 2kV

## RJ9
designator *  value RJ9
ki_keywords: 4P4C RJ female connector; ki_description: RJ connector, 4P4C (4 positions 4 connected); ki_fp_filters: 4P4C* RJ9* RJ10* RJ22*; Supplier: ~
pins: 1, 2, 3, 4

## RJ9_Shielded
designator *  value RJ9_Shielded
ki_keywords: 4P4C RJ female connector; ki_description: RJ connector, 4P4C (4 positions 4 connected), Shielded; ki_fp_filters: 4P4C* RJ9* RJ10* RJ22*; Supplier: ~
pins: 1, 2, 3, 4, SH

## RJ10
designator *  value RJ10
ki_keywords: 4P4C RJ female connector; ki_description: RJ connector, 4P4C (4 positions 4 connected); ki_fp_filters: 4P4C* RJ9* RJ10* RJ22*; Supplier: ~
pins: 1, 2, 3, 4

## RJ10_Shielded
designator *  value RJ10_Shielded
ki_keywords: 4P4C RJ female connector; ki_description: RJ connector, 4P4C (4 positions 4 connected), Shielded; ki_fp_filters: 4P4C* RJ9* RJ10* RJ22*; Supplier: ~
pins: 1, 2, 3, 4, SH

## RJ11
designator *  value RJ11
ki_keywords: 6P2C RJ female connector; ki_description: RJ connector, 6P2C (6 positions 2 connected); ki_fp_filters: 6P2C* RJ11*; Supplier: ~
pins: 1, 2

## RJ11_Shielded
designator *  value RJ11_Shielded
ki_keywords: 6P2C RJ female connector; ki_description: RJ connector, 6P2C (6 positions 2 connected), Shielded; ki_fp_filters: 6P2C* RJ11*; Supplier: ~
pins: 1, 2, SH

## RJ12
designator *  value RJ12
ki_keywords: 6P6C RJ female connector; ki_description: RJ connector, 6P6C (6 positions 6 connected); ki_fp_filters: 6P6C* RJ12* RJ18* RJ25*; Supplier: ~
pins: 1, 2, 3, 4, 5, 6

## RJ12_Shielded
designator *  value RJ12_Shielded
ki_keywords: 6P6C RJ female connector; ki_description: RJ connector, 6P6C (6 positions 6 connected), Shielded; ki_fp_filters: 6P6C* RJ12* RJ18* RJ25*; Supplier: ~
pins: 1, 2, 3, 4, 5, 6, SH

## RJ13
designator *  value RJ13
ki_keywords: 6P4C RJ female connector; ki_description: RJ connector, 6P4C (6 positions 4 connected); ki_fp_filters: 6P4C* RJ13* RJ14*; Supplier: ~
pins: 1, 2, 3, 4

## RJ13_Shielded
designator *  value RJ13_Shielded
ki_keywords: 6P4C RJ female connector; ki_description: RJ connector, 6P4C (6 positions 4 connected), Shielded; ki_fp_filters: 6P4C* RJ13* RJ14*; Supplier: ~
pins: 1, 2, 3, 4, SH

## RJ14
designator *  value RJ14
ki_keywords: 6P4C RJ female connector; ki_description: RJ connector, 6P4C (6 positions 4 connected); ki_fp_filters: 6P4C* RJ13* RJ14*; Supplier: ~
pins: 1, 2, 3, 4

## RJ14_Shielded
designator *  value RJ14_Shielded
ki_keywords: 6P4C RJ female connector; ki_description: RJ connector, 6P4C (6 positions 4 connected), Shielded; ki_fp_filters: 6P4C* RJ13* RJ14*; Supplier: ~
pins: 1, 2, 3, 4, SH

## RJ18
designator *  value RJ18
ki_keywords: 6P6C RJ female connector; ki_description: RJ connector, 6P6C (6 positions 6 connected); ki_fp_filters: 6P6C* RJ12* RJ18* RJ25*; Supplier: ~
pins: 1, 2, 3, 4, 5, 6

## RJ18_Shielded
designator *  value RJ18_Shielded
ki_keywords: 6P6C RJ female connector; ki_description: RJ connector, 6P6C (6 positions 6 connected), Shielded; ki_fp_filters: 6P6C* RJ12* RJ18* RJ25*; Supplier: ~
pins: 1, 2, 3, 4, 5, 6, SH

## RJ22
designator *  value RJ22
ki_keywords: 4P4C RJ female connector; ki_description: RJ connector, 4P4C (4 positions 4 connected); ki_fp_filters: 4P4C* RJ9* RJ10* RJ22*; Supplier: ~
pins: 1, 2, 3, 4

## RJ22_Shielded
designator *  value RJ22_Shielded
ki_keywords: 4P4C RJ female connector; ki_description: RJ connector, 4P4C (4 positions 4 connected), Shielded; ki_fp_filters: 4P4C* RJ9* RJ10* RJ22*; Supplier: ~
pins: 1, 2, 3, 4, SH

## RJ25
designator *  value RJ25
ki_keywords: 6P6C RJ female connector; ki_description: RJ connector, 6P6C (6 positions 6 connected); ki_fp_filters: 6P6C* RJ12* RJ18* RJ25*; Supplier: ~
pins: 1, 2, 3, 4, 5, 6

## RJ25_Shielded
designator *  value RJ25_Shielded
ki_keywords: 6P6C RJ female connector; ki_description: RJ connector, 6P6C (6 positions 6 connected), Shielded; ki_fp_filters: 6P6C* RJ12* RJ18* RJ25*; Supplier: ~
pins: 1, 2, 3, 4, 5, 6, SH

## RJ31
designator *  value RJ31
ki_keywords: 8P8C RJ female connector; ki_description: RJ connector, 8P8C (8 positions 8 connected); ki_fp_filters: 8P8C* RJ31* RJ32* RJ33* RJ34* RJ35* RJ41* RJ45* RJ49* RJ61*; Supplier: ~
pins: 1, 2, 3, 4, 5, 6, 7, 8

## RJ31_Shielded
designator *  value RJ31_Shielded
ki_keywords: 8P8C RJ female connector; ki_description: RJ connector, 8P8C (8 positions 8 connected), Shielded; ki_fp_filters: 8P8C* RJ31* RJ32* RJ33* RJ34* RJ35* RJ41* RJ45* RJ49* RJ61*; Supplier: ~
pins: 1, 2, 3, 4, 5, 6, 7, 8, SH

## RJ32
designator *  value RJ32
ki_keywords: 8P8C RJ female connector; ki_description: RJ connector, 8P8C (8 positions 8 connected); ki_fp_filters: 8P8C* RJ31* RJ32* RJ33* RJ34* RJ35* RJ41* RJ45* RJ49* RJ61*; Supplier: ~
pins: 1, 2, 3, 4, 5, 6, 7, 8

## RJ32_Shielded
designator *  value RJ32_Shielded
ki_keywords: 8P8C RJ female connector; ki_description: RJ connector, 8P8C (8 positions 8 connected), Shielded; ki_fp_filters: 8P8C* RJ31* RJ32* RJ33* RJ34* RJ35* RJ41* RJ45* RJ49* RJ61*; Supplier: ~
pins: 1, 2, 3, 4, 5, 6, 7, 8, SH

## RJ33
designator *  value RJ33
ki_keywords: 8P8C RJ female connector; ki_description: RJ connector, 8P8C (8 positions 8 connected); ki_fp_filters: 8P8C* RJ31* RJ32* RJ33* RJ34* RJ35* RJ41* RJ45* RJ49* RJ61*; Supplier: ~
pins: 1, 2, 3, 4, 5, 6, 7, 8

## RJ33_Shielded
designator *  value RJ33_Shielded
ki_keywords: 8P8C RJ female connector; ki_description: RJ connector, 8P8C (8 positions 8 connected), Shielded; ki_fp_filters: 8P8C* RJ31* RJ32* RJ33* RJ34* RJ35* RJ41* RJ45* RJ49* RJ61*; Supplier: ~
pins: 1, 2, 3, 4, 5, 6, 7, 8, SH

## RJ34
designator *  value RJ34
ki_keywords: 8P8C RJ female connector; ki_description: RJ connector, 8P8C (8 positions 8 connected); ki_fp_filters: 8P8C* RJ31* RJ32* RJ33* RJ34* RJ35* RJ41* RJ45* RJ49* RJ61*; Supplier: ~
pins: 1, 2, 3, 4, 5, 6, 7, 8

## RJ34_Shielded
designator *  value RJ34_Shielded
ki_keywords: 8P8C RJ female connector; ki_description: RJ connector, 8P8C (8 positions 8 connected), Shielded; ki_fp_filters: 8P8C* RJ31* RJ32* RJ33* RJ34* RJ35* RJ41* RJ45* RJ49* RJ61*; Supplier: ~
pins: 1, 2, 3, 4, 5, 6, 7, 8, SH

## RJ35
designator *  value RJ35
ki_keywords: 8P8C RJ female connector; ki_description: RJ connector, 8P8C (8 positions 8 connected); ki_fp_filters: 8P8C* RJ31* RJ32* RJ33* RJ34* RJ35* RJ41* RJ45* RJ49* RJ61*; Supplier: ~
pins: 1, 2, 3, 4, 5, 6, 7, 8

## RJ35_Shielded
designator *  value RJ35_Shielded
ki_keywords: 8P8C RJ female connector; ki_description: RJ connector, 8P8C (8 positions 8 connected), Shielded; ki_fp_filters: 8P8C* RJ31* RJ32* RJ33* RJ34* RJ35* RJ41* RJ45* RJ49* RJ61*; Supplier: ~
pins: 1, 2, 3, 4, 5, 6, 7, 8, SH

## RJ38
designator *  value RJ38
ki_keywords: 8P4C RJ female connector; ki_description: RJ connector, 8P4C (8 positions 4 connected); ki_fp_filters: 8P4C* RJ38* RJ48*; Supplier: ~
pins: 1, 2, 3, 4

## RJ38_Shielded
designator *  value RJ38_Shielded
ki_keywords: 8P4C RJ female connector; ki_description: RJ connector, 8P4C (8 positions 4 connected), Shielded; ki_fp_filters: 8P4C* RJ38* RJ48*; Supplier: ~
pins: 1, 2, 3, 4, SH

## RJ41
designator *  value RJ41
ki_keywords: 8P8C RJ female connector; ki_description: RJ connector, 8P8C (8 positions 8 connected); ki_fp_filters: 8P8C* RJ31* RJ32* RJ33* RJ34* RJ35* RJ41* RJ45* RJ49* RJ61*; Supplier: ~
pins: 1, 2, 3, 4, 5, 6, 7, 8

## RJ41_Shielded
designator *  value RJ41_Shielded
ki_keywords: 8P8C RJ female connector; ki_description: RJ connector, 8P8C (8 positions 8 connected), Shielded; ki_fp_filters: 8P8C* RJ31* RJ32* RJ33* RJ34* RJ35* RJ41* RJ45* RJ49* RJ61*; Supplier: ~
pins: 1, 2, 3, 4, 5, 6, 7, 8, SH

## RJ45
designator *  value RJ45
ki_keywords: 8P8C RJ female connector; ki_description: RJ connector, 8P8C (8 positions 8 connected); ki_fp_filters: 8P8C* RJ31* RJ32* RJ33* RJ34* RJ35* RJ41* RJ45* RJ49* RJ61*; Supplier: ~
pins: 1, 2, 3, 4, 5, 6, 7, 8

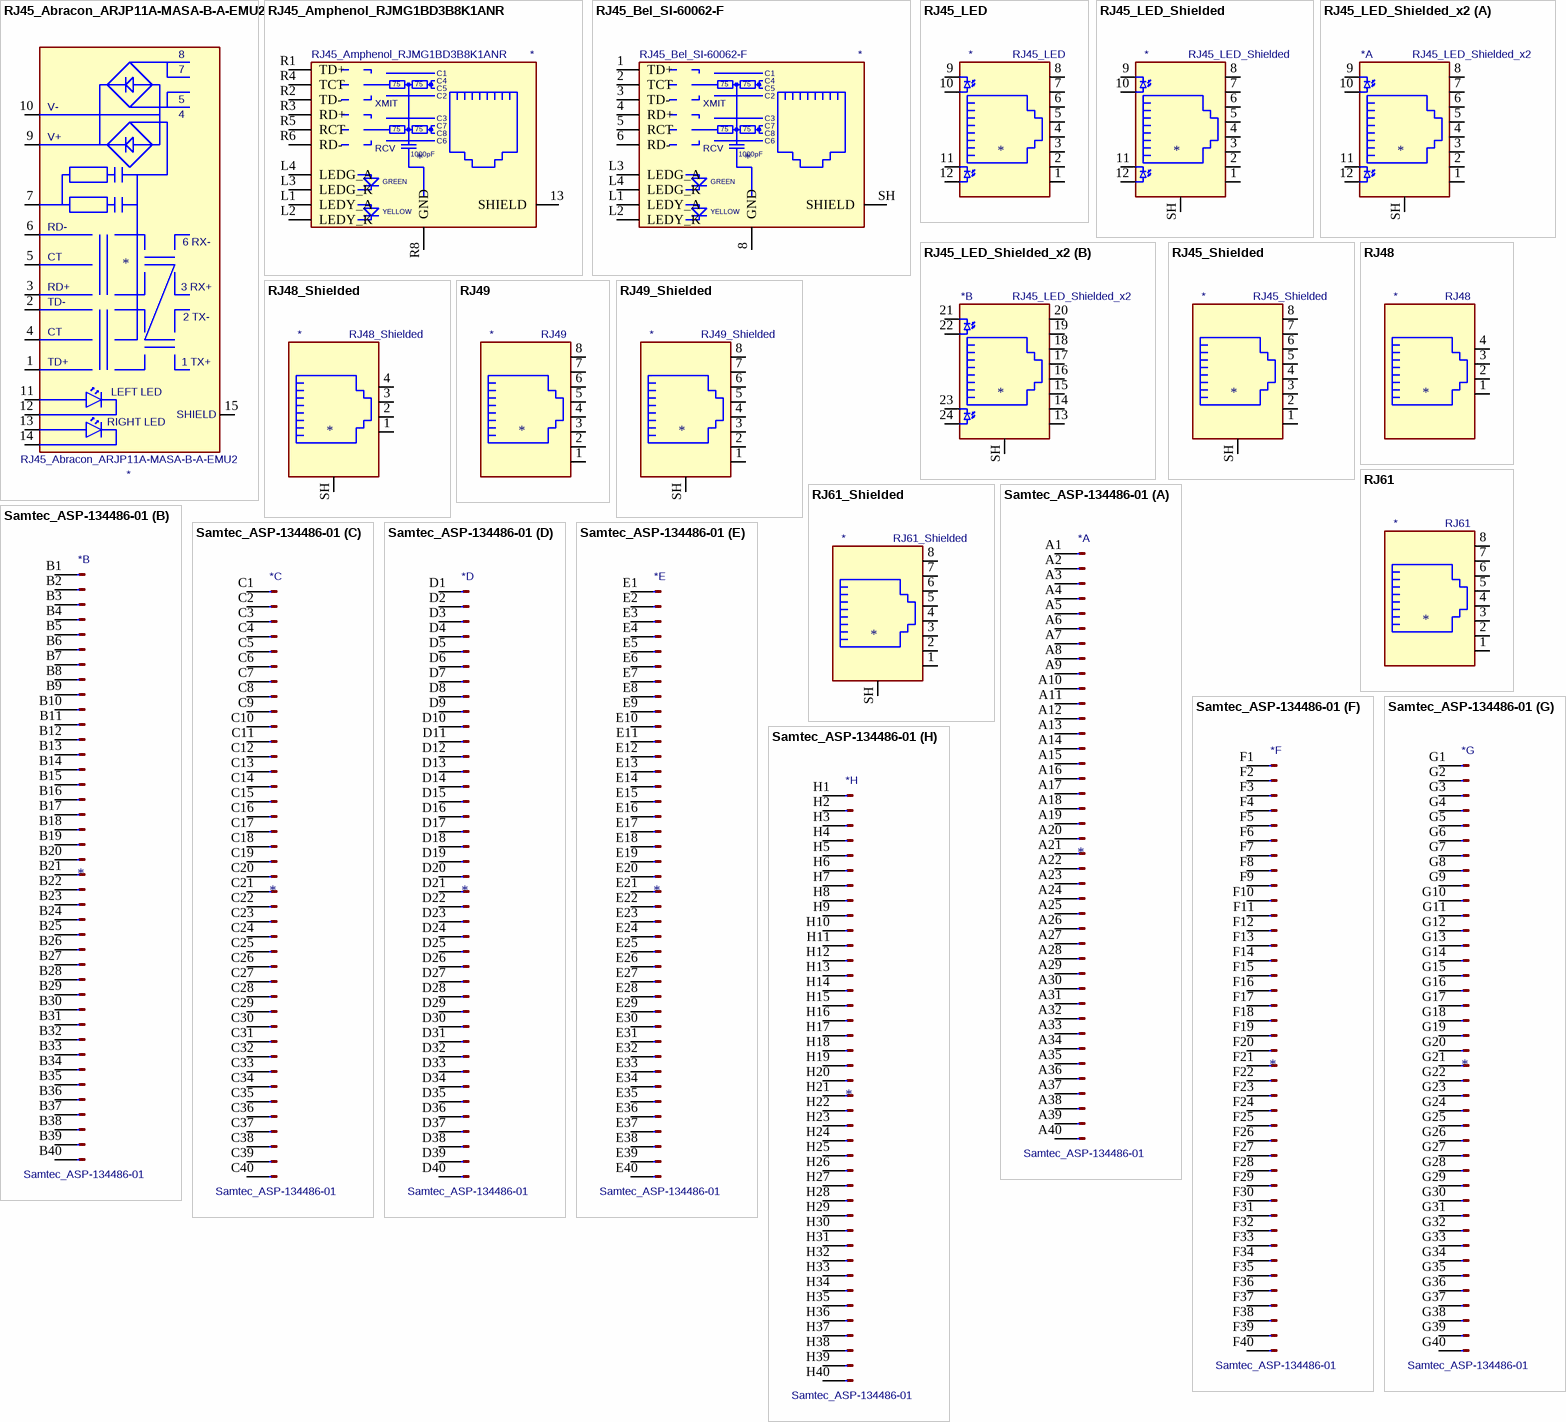
[diagram p10: symbols RJ45_Abracon_ARJP11A-MASA-B-A-EMU2 to Samtec_ASP-134486-01]

## RJ45_Abracon_ARJP11A-MASA-B-A-EMU2
designator *  value RJ45_Abracon_ARJP11A-MASA-B-A-EMU2
ki_keywords: single port ethernet transformer poe center-tap; ki_description: RJ45 PoE 10/100 Base-TX Jack with Magnetic Module; ki_fp_filters: RJ45*Abracon*ARJP11A?MA*; Footprint: Connector_RJ:RJ45_Abracon_ARJP11A-MA_Horizontal; Supplier: https://abracon.com/Magnetics/lan/ARJP11A.PDF
footprint RJ45_Abracon_ARJP11A-MA_Horizontal
pins: 1 TD+, 2 TD-, 3 RD+, 4 CT, 5 CT, 6 RD-, 7, 9 V+ (power), 10 V- (power), 11 LLED+, 12 LLED-, 13 RLED+, 14 RLED-, 15 SHIELD
text: 8; 6 RX-; 3 RX+; 2 TX-; 1 TX+; LEFT LED; RIGHT LED

## RJ45_Amphenol_RJMG1BD3B8K1ANR
designator *  value RJ45_Amphenol_RJMG1BD3B8K1ANR
ki_keywords: RJ45 Magjack; ki_description: 1 Port RJ45 Magjack Connector Through Hole 10/100 Base-T, AutoMDIX; ki_fp_filters: RJ45*Amphenol*RJMG1BD3B8K1ANR*; Footprint: Connector_RJ:RJ45_Amphenol_RJMG1BD3B8K1ANR; Supplier: https://www.amphenolcanada.com/ProductSearch/Drawings/AC/RJMG1BD3B8K1ANR.PDF
footprint RJ45_Amphenol_RJMG1BD3B8K1ANR
pins: 13 SHIELD, L1 LEDY_A, L2 LEDY_K, L3 LEDG_K, L4 LEDG_A, R1 TD+, R2 TD-, R3 RD+, R4 TCT, R5 RCT, R6 RD-, R7 NC (in) hidden, R8 GND (power)
text: C1; 75; C4; C5; XMIT; C2; C3; C7; C8; RCV; C6; 1000pF; GREEN; YELLOW

## RJ45_Bel_SI-60062-F
designator *  value RJ45_Bel_SI-60062-F
ki_keywords: RJ45 Magjack; ki_description: 1 Port RJ45 Magjack Connector Through Hole 10/100 Base-T, AutoMDIX; ki_fp_filters: RJ45*Bel*SI*60062*F*; Footprint: Connector_RJ:RJ45_Bel_SI-60062-F; Supplier: https://belfuse.com/resources/drawings/magneticsolutions/dr-mag-si-60062-f.pdf
footprint RJ45_Bel_SI-60062-F
pins: 1 TD+, 2 TCT, 3 TD-, 4 RD+, 5 RCT, 6 RD-, 7 NC (in) hidden, 8 GND (power), L1 LEDY_A, L2 LEDY_K, L3 LEDG_A, L4 LEDG_K, SH SHIELD
text: C1; 75; C4; C5; XMIT; C2; C3; C7; C8; RCV; C6; 1000pF; GREEN; YELLOW

## RJ45_LED
designator *  value RJ45_LED
ki_keywords: 8P8C RJ female connector led; ki_description: RJ connector, 8P8C (8 positions 8 connected), two LEDs; ki_fp_filters: 8P8C* RJ45*; Supplier: ~
pins: 1, 2, 3, 4, 5, 6, 7, 8, 9, 10, 11, 12

## RJ45_LED_Shielded
designator *  value RJ45_LED_Shielded
ki_keywords: 8P8C RJ female connector led; ki_description: RJ connector, 8P8C (8 positions 8 connected), two LEDs, Shielded; ki_fp_filters: 8P8C* RJ45*; Supplier: ~
pins: 1, 2, 3, 4, 5, 6, 7, 8, 9, 10, 11, 12, SH

## RJ45_LED_Shielded_x2
designator *  value RJ45_LED_Shielded_x2
ki_keywords: 8P8C RJ female connector led; ki_description: RJ connector, 8P8C (8 positions 8 connected), two LEDs, Shielded, two ports; ki_fp_filters: 8P8C*02* RJ45*02*; Supplier: ~
part A pins: 1, 2, 3, 4, 5, 6, 7, 8, 9, 10, 11, 12, SH
part B pins: 13, 14, 15, 16, 17, 18, 19, 20, 21, 22, 23, 24, SH

## RJ45_Shielded
designator *  value RJ45_Shielded
ki_keywords: 8P8C RJ female connector; ki_description: RJ connector, 8P8C (8 positions 8 connected), Shielded; ki_fp_filters: 8P8C* RJ31* RJ32* RJ33* RJ34* RJ35* RJ41* RJ45* RJ49* RJ61*; Supplier: ~
pins: 1, 2, 3, 4, 5, 6, 7, 8, SH

## RJ48
designator *  value RJ48
ki_keywords: 8P4C RJ female connector; ki_description: RJ connector, 8P4C (8 positions 4 connected); ki_fp_filters: 8P4C* RJ38* RJ48*; Supplier: ~
pins: 1, 2, 3, 4

## RJ48_Shielded
designator *  value RJ48_Shielded
ki_keywords: 8P4C RJ female connector; ki_description: RJ connector, 8P4C (8 positions 4 connected), Shielded; ki_fp_filters: 8P4C* RJ38* RJ48*; Supplier: ~
pins: 1, 2, 3, 4, SH

## RJ49
designator *  value RJ49
ki_keywords: 8P8C RJ female connector; ki_description: RJ connector, 8P8C (8 positions 8 connected); ki_fp_filters: 8P8C* RJ31* RJ32* RJ33* RJ34* RJ35* RJ41* RJ45* RJ49* RJ61*; Supplier: ~
pins: 1, 2, 3, 4, 5, 6, 7, 8

## RJ49_Shielded
designator *  value RJ49_Shielded
ki_keywords: 8P8C RJ female connector; ki_description: RJ connector, 8P8C (8 positions 8 connected), Shielded; ki_fp_filters: 8P8C* RJ31* RJ32* RJ33* RJ34* RJ35* RJ41* RJ45* RJ49* RJ61*; Supplier: ~
pins: 1, 2, 3, 4, 5, 6, 7, 8, SH

## RJ61
designator *  value RJ61
ki_keywords: 8P8C RJ female connector; ki_description: RJ connector, 8P8C (8 positions 8 connected); ki_fp_filters: 8P8C* RJ31* RJ32* RJ33* RJ34* RJ35* RJ41* RJ45* RJ49* RJ61*; Supplier: ~
pins: 1, 2, 3, 4, 5, 6, 7, 8

## RJ61_Shielded
designator *  value RJ61_Shielded
ki_keywords: 8P8C RJ female connector; ki_description: RJ connector, 8P8C (8 positions 8 connected), Shielded; ki_fp_filters: 8P8C* RJ31* RJ32* RJ33* RJ34* RJ35* RJ41* RJ45* RJ49* RJ61*; Supplier: ~
pins: 1, 2, 3, 4, 5, 6, 7, 8, SH

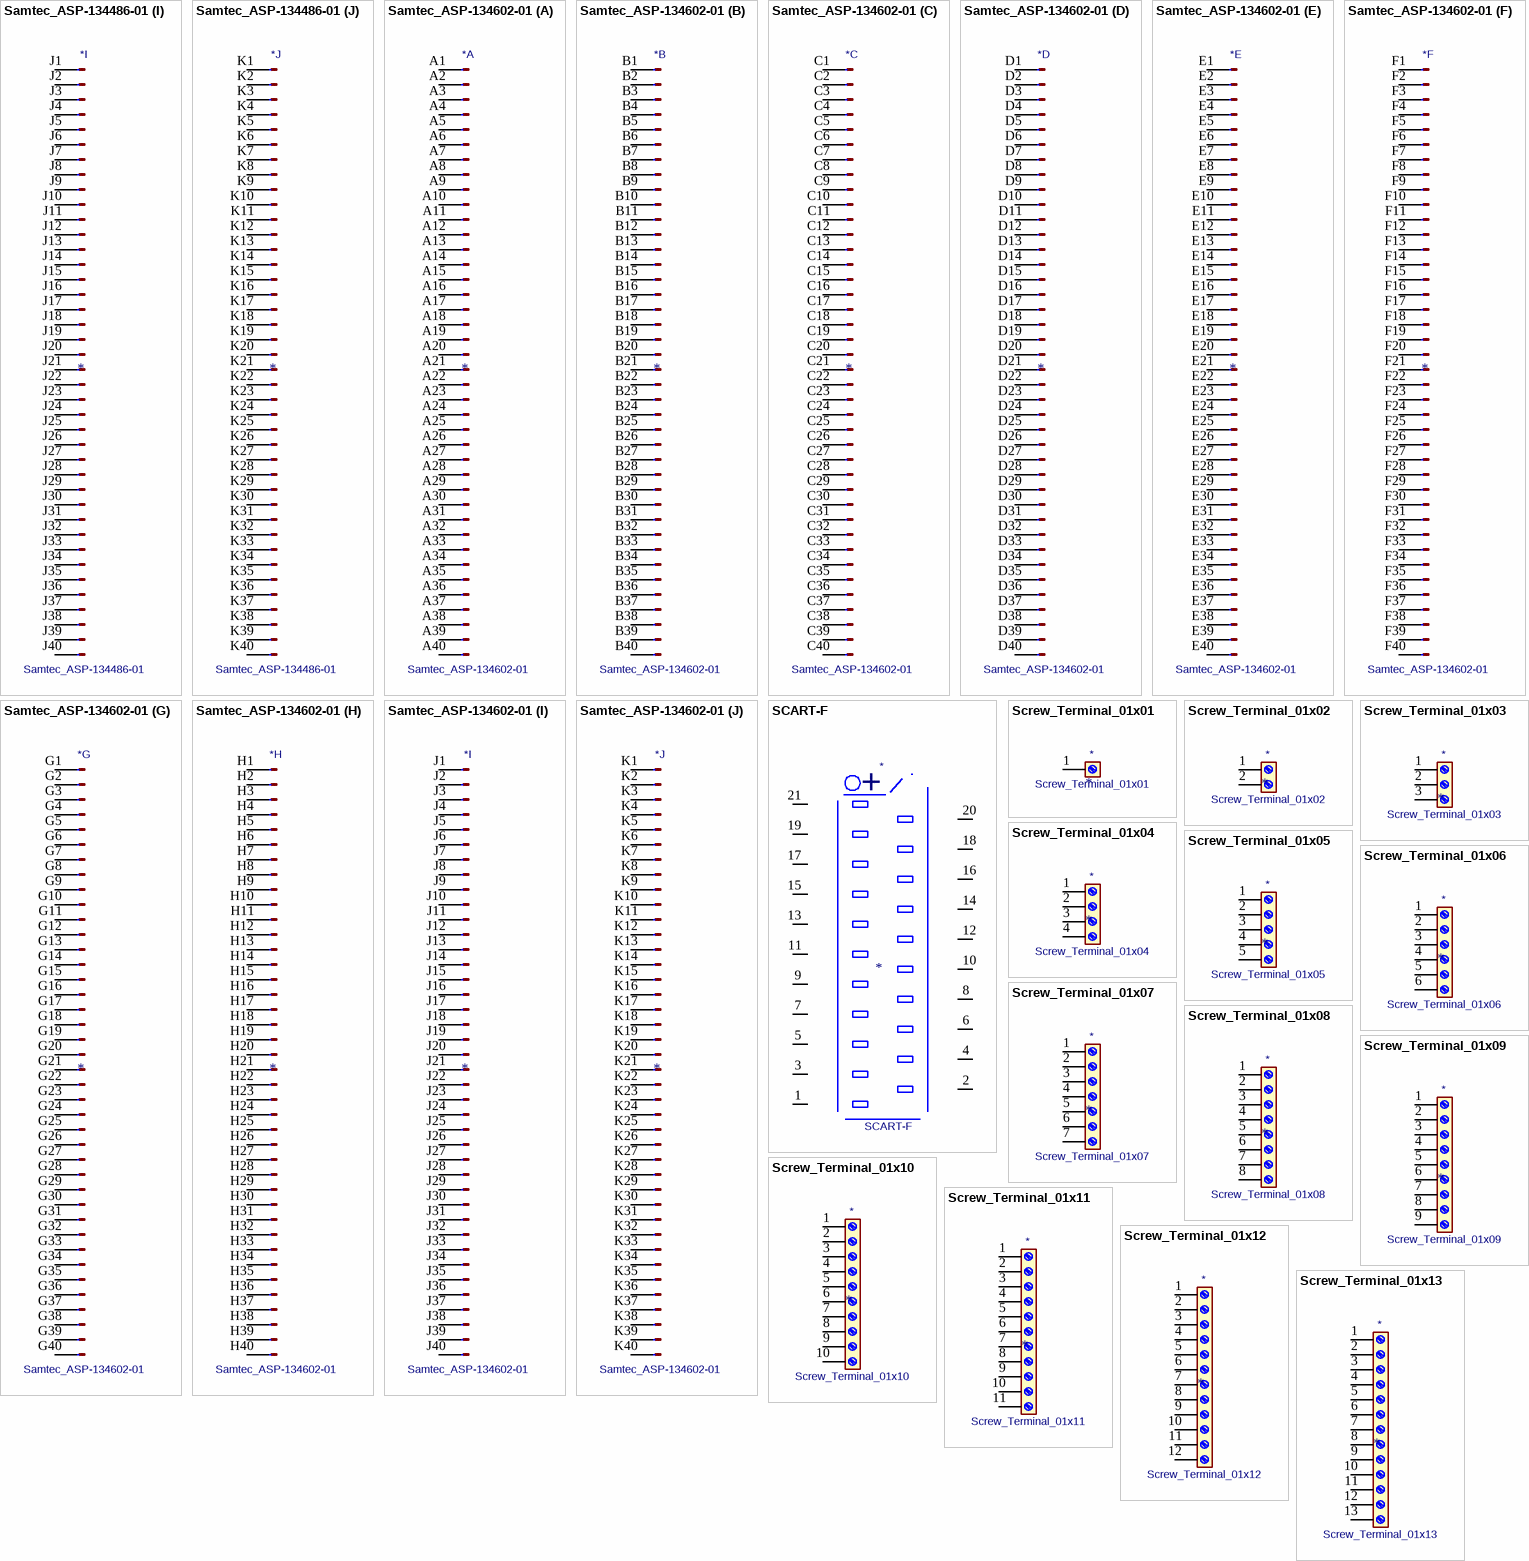
[diagram p11: symbols Samtec_ASP-134486-01 to Screw_Terminal_01x13]

## Samtec_ASP-134486-01
designator *  value Samtec_ASP-134486-01
ki_keywords: FPGA Mezzanine Card FMC Terminal Connector Header; ki_description: Connector array, 10x40, 1.27mm pitch, female pins, gold finish, VITA 57.1 FMC, SMD; ki_fp_filters: *FMC*ASP*134602?01*10x40*P1.27mm* *FMC*ASP*134486?01*10x40*P1.27mm*; Supplier: http://suddendocs.samtec.com/prints/asp-134486-01-mkt.pdf
part A pins: A1 Pin_1, A2 Pin_2, A3 Pin_3, A4 Pin_4, A5 Pin_5, A6 Pin_6, A7 Pin_7, A8 Pin_8, A9 Pin_9, A10 Pin_10, A11 Pin_11, A12 Pin_12, A13 Pin_13, A14 Pin_14, A15 Pin_15, A16 Pin_16, A17 Pin_17, A18 Pin_18, A19 Pin_19, A20 Pin_20, A21 Pin_21, A22 Pin_22, A23 Pin_23, A24 Pin_24, A25 Pin_25, A26 Pin_26, A27 Pin_27, A28 Pin_28, A29 Pin_29, A30 Pin_30, A31 Pin_31, A32 Pin_32, A33 Pin_33, A34 Pin_34, A35 Pin_35, A36 Pin_36, A37 Pin_37, A38 Pin_38, A39 Pin_39, A40 Pin_40
part B pins: B1 Pin_1, B2 Pin_2, B3 Pin_3, B4 Pin_4, B5 Pin_5, B6 Pin_6, B7 Pin_7, B8 Pin_8, B9 Pin_9, B10 Pin_10, B11 Pin_11, B12 Pin_12, B13 Pin_13, B14 Pin_14, B15 Pin_15, B16 Pin_16, B17 Pin_17, B18 Pin_18, B19 Pin_19, B20 Pin_20, B21 Pin_21, B22 Pin_22, B23 Pin_23, B24 Pin_24, B25 Pin_25, B26 Pin_26, B27 Pin_27, B28 Pin_28, B29 Pin_29, B30 Pin_30, B31 Pin_31, B32 Pin_32, B33 Pin_33, B34 Pin_34, B35 Pin_35, B36 Pin_36, B37 Pin_37, B38 Pin_38, B39 Pin_39, B40 Pin_40
part C pins: C1 Pin_1, C2 Pin_2, C3 Pin_3, C4 Pin_4, C5 Pin_5, C6 Pin_6, C7 Pin_7, C8 Pin_8, C9 Pin_9, C10 Pin_10, C11 Pin_11, C12 Pin_12, C13 Pin_13, C14 Pin_14, C15 Pin_15, C16 Pin_16, C17 Pin_17, C18 Pin_18, C19 Pin_19, C20 Pin_20, C21 Pin_21, C22 Pin_22, C23 Pin_23, C24 Pin_24, C25 Pin_25, C26 Pin_26, C27 Pin_27, C28 Pin_28, C29 Pin_29, C30 Pin_30, C31 Pin_31, C32 Pin_32, C33 Pin_33, C34 Pin_34, C35 Pin_35, C36 Pin_36, C37 Pin_37, C38 Pin_38, C39 Pin_39, C40 Pin_40
part D pins: D1 Pin_1, D2 Pin_2, D3 Pin_3, D4 Pin_4, D5 Pin_5, D6 Pin_6, D7 Pin_7, D8 Pin_8, D9 Pin_9, D10 Pin_10, D11 Pin_11, D12 Pin_12, D13 Pin_13, D14 Pin_14, D15 Pin_15, D16 Pin_16, D17 Pin_17, D18 Pin_18, D19 Pin_19, D20 Pin_20, D21 Pin_21, D22 Pin_22, D23 Pin_23, D24 Pin_24, D25 Pin_25, D26 Pin_26, D27 Pin_27, D28 Pin_28, D29 Pin_29, D30 Pin_30, D31 Pin_31, D32 Pin_32, D33 Pin_33, D34 Pin_34, D35 Pin_35, D36 Pin_36, D37 Pin_37, D38 Pin_38, D39 Pin_39, D40 Pin_40
part E pins: E1 Pin_1, E2 Pin_2, E3 Pin_3, E4 Pin_4, E5 Pin_5, E6 Pin_6, E7 Pin_7, E8 Pin_8, E9 Pin_9, E10 Pin_10, E11 Pin_11, E12 Pin_12, E13 Pin_13, E14 Pin_14, E15 Pin_15, E16 Pin_16, E17 Pin_17, E18 Pin_18, E19 Pin_19, E20 Pin_20, E21 Pin_21, E22 Pin_22, E23 Pin_23, E24 Pin_24, E25 Pin_25, E26 Pin_26, E27 Pin_27, E28 Pin_28, E29 Pin_29, E30 Pin_30, E31 Pin_31, E32 Pin_32, E33 Pin_33, E34 Pin_34, E35 Pin_35, E36 Pin_36, E37 Pin_37, E38 Pin_38, E39 Pin_39, E40 Pin_40
part F pins: F1 Pin_1, F2 Pin_2, F3 Pin_3, F4 Pin_4, F5 Pin_5, F6 Pin_6, F7 Pin_7, F8 Pin_8, F9 Pin_9, F10 Pin_10, F11 Pin_11, F12 Pin_12, F13 Pin_13, F14 Pin_14, F15 Pin_15, F16 Pin_16, F17 Pin_17, F18 Pin_18, F19 Pin_19, F20 Pin_20, F21 Pin_21, F22 Pin_22, F23 Pin_23, F24 Pin_24, F25 Pin_25, F26 Pin_26, F27 Pin_27, F28 Pin_28, F29 Pin_29, F30 Pin_30, F31 Pin_31, F32 Pin_32, F33 Pin_33, F34 Pin_34, F35 Pin_35, F36 Pin_36, F37 Pin_37, F38 Pin_38, F39 Pin_39, F40 Pin_40
part G pins: G1 Pin_1, G2 Pin_2, G3 Pin_3, G4 Pin_4, G5 Pin_5, G6 Pin_6, G7 Pin_7, G8 Pin_8, G9 Pin_9, G10 Pin_10, G11 Pin_11, G12 Pin_12, G13 Pin_13, G14 Pin_14, G15 Pin_15, G16 Pin_16, G17 Pin_17, G18 Pin_18, G19 Pin_19, G20 Pin_20, G21 Pin_21, G22 Pin_22, G23 Pin_23, G24 Pin_24, G25 Pin_25, G26 Pin_26, G27 Pin_27, G28 Pin_28, G29 Pin_29, G30 Pin_30, G31 Pin_31, G32 Pin_32, G33 Pin_33, G34 Pin_34, G35 Pin_35, G36 Pin_36, G37 Pin_37, G38 Pin_38, G39 Pin_39, G40 Pin_40
part H pins: H1 Pin_1, H2 Pin_2, H3 Pin_3, H4 Pin_4, H5 Pin_5, H6 Pin_6, H7 Pin_7, H8 Pin_8, H9 Pin_9, H10 Pin_10, H11 Pin_11, H12 Pin_12, H13 Pin_13, H14 Pin_14, H15 Pin_15, H16 Pin_16, H17 Pin_17, H18 Pin_18, H19 Pin_19, H20 Pin_20, H21 Pin_21, H22 Pin_22, H23 Pin_23, H24 Pin_24, H25 Pin_25, H26 Pin_26, H27 Pin_27, H28 Pin_28, H29 Pin_29, H30 Pin_30, H31 Pin_31, H32 Pin_32, H33 Pin_33, H34 Pin_34, H35 Pin_35, H36 Pin_36, H37 Pin_37, H38 Pin_38, H39 Pin_39, H40 Pin_40
part I pins: J1 Pin_1, J2 Pin_2, J3 Pin_3, J4 Pin_4, J5 Pin_5, J6 Pin_6, J7 Pin_7, J8 Pin_8, J9 Pin_9, J10 Pin_10, J11 Pin_11, J12 Pin_12, J13 Pin_13, J14 Pin_14, J15 Pin_15, J16 Pin_16, J17 Pin_17, J18 Pin_18, J19 Pin_19, J20 Pin_20, J21 Pin_21, J22 Pin_22, J23 Pin_23, J24 Pin_24, J25 Pin_25, J26 Pin_26, J27 Pin_27, J28 Pin_28, J29 Pin_29, J30 Pin_30, J31 Pin_31, J32 Pin_32, J33 Pin_33, J34 Pin_34, J35 Pin_35, J36 Pin_36, J37 Pin_37, J38 Pin_38, J39 Pin_39, J40 Pin_40
part J pins: K1 Pin_1, K2 Pin_2, K3 Pin_3, K4 Pin_4, K5 Pin_5, K6 Pin_6, K7 Pin_7, K8 Pin_8, K9 Pin_9, K10 Pin_10, K11 Pin_11, K12 Pin_12, K13 Pin_13, K14 Pin_14, K15 Pin_15, K16 Pin_16, K17 Pin_17, K18 Pin_18, K19 Pin_19, K20 Pin_20, K21 Pin_21, K22 Pin_22, K23 Pin_23, K24 Pin_24, K25 Pin_25, K26 Pin_26, K27 Pin_27, K28 Pin_28, K29 Pin_29, K30 Pin_30, K31 Pin_31, K32 Pin_32, K33 Pin_33, K34 Pin_34, K35 Pin_35, K36 Pin_36, K37 Pin_37, K38 Pin_38, K39 Pin_39, K40 Pin_40

## Samtec_ASP-134602-01
designator *  value Samtec_ASP-134602-01
ki_keywords: FPGA Mezzanine Card FMC Terminal Connector Header; ki_description: Connector array, 10x40, 1.27mm pitch, male pins, gold finish, VITA 57.1 FMC, SMD; ki_fp_filters: *FMC*ASP*134602?01*10x40*P1.27mm* *FMC*ASP*134486?01*10x40*P1.27mm*; Supplier: http://suddendocs.samtec.com/prints/asp-134602-01-mkt.pdf
part A pins: A1 Pin_1, A2 Pin_2, A3 Pin_3, A4 Pin_4, A5 Pin_5, A6 Pin_6, A7 Pin_7, A8 Pin_8, A9 Pin_9, A10 Pin_10, A11 Pin_11, A12 Pin_12, A13 Pin_13, A14 Pin_14, A15 Pin_15, A16 Pin_16, A17 Pin_17, A18 Pin_18, A19 Pin_19, A20 Pin_20, A21 Pin_21, A22 Pin_22, A23 Pin_23, A24 Pin_24, A25 Pin_25, A26 Pin_26, A27 Pin_27, A28 Pin_28, A29 Pin_29, A30 Pin_30, A31 Pin_31, A32 Pin_32, A33 Pin_33, A34 Pin_34, A35 Pin_35, A36 Pin_36, A37 Pin_37, A38 Pin_38, A39 Pin_39, A40 Pin_40
part B pins: B1 Pin_1, B2 Pin_2, B3 Pin_3, B4 Pin_4, B5 Pin_5, B6 Pin_6, B7 Pin_7, B8 Pin_8, B9 Pin_9, B10 Pin_10, B11 Pin_11, B12 Pin_12, B13 Pin_13, B14 Pin_14, B15 Pin_15, B16 Pin_16, B17 Pin_17, B18 Pin_18, B19 Pin_19, B20 Pin_20, B21 Pin_21, B22 Pin_22, B23 Pin_23, B24 Pin_24, B25 Pin_25, B26 Pin_26, B27 Pin_27, B28 Pin_28, B29 Pin_29, B30 Pin_30, B31 Pin_31, B32 Pin_32, B33 Pin_33, B34 Pin_34, B35 Pin_35, B36 Pin_36, B37 Pin_37, B38 Pin_38, B39 Pin_39, B40 Pin_40
part C pins: C1 Pin_1, C2 Pin_2, C3 Pin_3, C4 Pin_4, C5 Pin_5, C6 Pin_6, C7 Pin_7, C8 Pin_8, C9 Pin_9, C10 Pin_10, C11 Pin_11, C12 Pin_12, C13 Pin_13, C14 Pin_14, C15 Pin_15, C16 Pin_16, C17 Pin_17, C18 Pin_18, C19 Pin_19, C20 Pin_20, C21 Pin_21, C22 Pin_22, C23 Pin_23, C24 Pin_24, C25 Pin_25, C26 Pin_26, C27 Pin_27, C28 Pin_28, C29 Pin_29, C30 Pin_30, C31 Pin_31, C32 Pin_32, C33 Pin_33, C34 Pin_34, C35 Pin_35, C36 Pin_36, C37 Pin_37, C38 Pin_38, C39 Pin_39, C40 Pin_40
part D pins: D1 Pin_1, D2 Pin_2, D3 Pin_3, D4 Pin_4, D5 Pin_5, D6 Pin_6, D7 Pin_7, D8 Pin_8, D9 Pin_9, D10 Pin_10, D11 Pin_11, D12 Pin_12, D13 Pin_13, D14 Pin_14, D15 Pin_15, D16 Pin_16, D17 Pin_17, D18 Pin_18, D19 Pin_19, D20 Pin_20, D21 Pin_21, D22 Pin_22, D23 Pin_23, D24 Pin_24, D25 Pin_25, D26 Pin_26, D27 Pin_27, D28 Pin_28, D29 Pin_29, D30 Pin_30, D31 Pin_31, D32 Pin_32, D33 Pin_33, D34 Pin_34, D35 Pin_35, D36 Pin_36, D37 Pin_37, D38 Pin_38, D39 Pin_39, D40 Pin_40
part E pins: E1 Pin_1, E2 Pin_2, E3 Pin_3, E4 Pin_4, E5 Pin_5, E6 Pin_6, E7 Pin_7, E8 Pin_8, E9 Pin_9, E10 Pin_10, E11 Pin_11, E12 Pin_12, E13 Pin_13, E14 Pin_14, E15 Pin_15, E16 Pin_16, E17 Pin_17, E18 Pin_18, E19 Pin_19, E20 Pin_20, E21 Pin_21, E22 Pin_22, E23 Pin_23, E24 Pin_24, E25 Pin_25, E26 Pin_26, E27 Pin_27, E28 Pin_28, E29 Pin_29, E30 Pin_30, E31 Pin_31, E32 Pin_32, E33 Pin_33, E34 Pin_34, E35 Pin_35, E36 Pin_36, E37 Pin_37, E38 Pin_38, E39 Pin_39, E40 Pin_40
part F pins: F1 Pin_1, F2 Pin_2, F3 Pin_3, F4 Pin_4, F5 Pin_5, F6 Pin_6, F7 Pin_7, F8 Pin_8, F9 Pin_9, F10 Pin_10, F11 Pin_11, F12 Pin_12, F13 Pin_13, F14 Pin_14, F15 Pin_15, F16 Pin_16, F17 Pin_17, F18 Pin_18, F19 Pin_19, F20 Pin_20, F21 Pin_21, F22 Pin_22, F23 Pin_23, F24 Pin_24, F25 Pin_25, F26 Pin_26, F27 Pin_27, F28 Pin_28, F29 Pin_29, F30 Pin_30, F31 Pin_31, F32 Pin_32, F33 Pin_33, F34 Pin_34, F35 Pin_35, F36 Pin_36, F37 Pin_37, F38 Pin_38, F39 Pin_39, F40 Pin_40
part G pins: G1 Pin_1, G2 Pin_2, G3 Pin_3, G4 Pin_4, G5 Pin_5, G6 Pin_6, G7 Pin_7, G8 Pin_8, G9 Pin_9, G10 Pin_10, G11 Pin_11, G12 Pin_12, G13 Pin_13, G14 Pin_14, G15 Pin_15, G16 Pin_16, G17 Pin_17, G18 Pin_18, G19 Pin_19, G20 Pin_20, G21 Pin_21, G22 Pin_22, G23 Pin_23, G24 Pin_24, G25 Pin_25, G26 Pin_26, G27 Pin_27, G28 Pin_28, G29 Pin_29, G30 Pin_30, G31 Pin_31, G32 Pin_32, G33 Pin_33, G34 Pin_34, G35 Pin_35, G36 Pin_36, G37 Pin_37, G38 Pin_38, G39 Pin_39, G40 Pin_40
part H pins: H1 Pin_1, H2 Pin_2, H3 Pin_3, H4 Pin_4, H5 Pin_5, H6 Pin_6, H7 Pin_7, H8 Pin_8, H9 Pin_9, H10 Pin_10, H11 Pin_11, H12 Pin_12, H13 Pin_13, H14 Pin_14, H15 Pin_15, H16 Pin_16, H17 Pin_17, H18 Pin_18, H19 Pin_19, H20 Pin_20, H21 Pin_21, H22 Pin_22, H23 Pin_23, H24 Pin_24, H25 Pin_25, H26 Pin_26, H27 Pin_27, H28 Pin_28, H29 Pin_29, H30 Pin_30, H31 Pin_31, H32 Pin_32, H33 Pin_33, H34 Pin_34, H35 Pin_35, H36 Pin_36, H37 Pin_37, H38 Pin_38, H39 Pin_39, H40 Pin_40
part I pins: J1 Pin_1, J2 Pin_2, J3 Pin_3, J4 Pin_4, J5 Pin_5, J6 Pin_6, J7 Pin_7, J8 Pin_8, J9 Pin_9, J10 Pin_10, J11 Pin_11, J12 Pin_12, J13 Pin_13, J14 Pin_14, J15 Pin_15, J16 Pin_16, J17 Pin_17, J18 Pin_18, J19 Pin_19, J20 Pin_20, J21 Pin_21, J22 Pin_22, J23 Pin_23, J24 Pin_24, J25 Pin_25, J26 Pin_26, J27 Pin_27, J28 Pin_28, J29 Pin_29, J30 Pin_30, J31 Pin_31, J32 Pin_32, J33 Pin_33, J34 Pin_34, J35 Pin_35, J36 Pin_36, J37 Pin_37, J38 Pin_38, J39 Pin_39, J40 Pin_40
part J pins: K1 Pin_1, K2 Pin_2, K3 Pin_3, K4 Pin_4, K5 Pin_5, K6 Pin_6, K7 Pin_7, K8 Pin_8, K9 Pin_9, K10 Pin_10, K11 Pin_11, K12 Pin_12, K13 Pin_13, K14 Pin_14, K15 Pin_15, K16 Pin_16, K17 Pin_17, K18 Pin_18, K19 Pin_19, K20 Pin_20, K21 Pin_21, K22 Pin_22, K23 Pin_23, K24 Pin_24, K25 Pin_25, K26 Pin_26, K27 Pin_27, K28 Pin_28, K29 Pin_29, K30 Pin_30, K31 Pin_31, K32 Pin_32, K33 Pin_33, K34 Pin_34, K35 Pin_35, K36 Pin_36, K37 Pin_37, K38 Pin_38, K39 Pin_39, K40 Pin_40

## SCART-F
designator *  value SCART-F
ki_keywords: connector; ki_description: Prise Peritel; Supplier: ~
pins: 1 P1, 2 P2, 3 P3, 4 P4, 5 P5, 6 P6, 7 P7, 8 P8, 9 P9, 10 P10, 11 P11, 12 P12, 13 P13, 14 P14, 15 P15, 16 P16, 17 P17, 18 P18, 19 P19, 20 P20, 21 P21
text: +

## Screw_Terminal_01x01
designator *  value Screw_Terminal_01x01
ki_keywords: screw terminal; ki_description: Generic screw terminal, single row, 01x01, script generated (kicad-library-utils/schlib/autogen/connector/); ki_fp_filters: TerminalBlock*:*; Supplier: ~
pins: 1 Pin_1

## Screw_Terminal_01x02
designator *  value Screw_Terminal_01x02
ki_keywords: screw terminal; ki_description: Generic screw terminal, single row, 01x02, script generated (kicad-library-utils/schlib/autogen/connector/); ki_fp_filters: TerminalBlock*:*; Supplier: ~
pins: 1 Pin_1, 2 Pin_2

## Screw_Terminal_01x03
designator *  value Screw_Terminal_01x03
ki_keywords: screw terminal; ki_description: Generic screw terminal, single row, 01x03, script generated (kicad-library-utils/schlib/autogen/connector/); ki_fp_filters: TerminalBlock*:*; Supplier: ~
pins: 1 Pin_1, 2 Pin_2, 3 Pin_3

## Screw_Terminal_01x04
designator *  value Screw_Terminal_01x04
ki_keywords: screw terminal; ki_description: Generic screw terminal, single row, 01x04, script generated (kicad-library-utils/schlib/autogen/connector/); ki_fp_filters: TerminalBlock*:*; Supplier: ~
pins: 1 Pin_1, 2 Pin_2, 3 Pin_3, 4 Pin_4

## Screw_Terminal_01x05
designator *  value Screw_Terminal_01x05
ki_keywords: screw terminal; ki_description: Generic screw terminal, single row, 01x05, script generated (kicad-library-utils/schlib/autogen/connector/); ki_fp_filters: TerminalBlock*:*; Supplier: ~
pins: 1 Pin_1, 2 Pin_2, 3 Pin_3, 4 Pin_4, 5 Pin_5

## Screw_Terminal_01x06
designator *  value Screw_Terminal_01x06
ki_keywords: screw terminal; ki_description: Generic screw terminal, single row, 01x06, script generated (kicad-library-utils/schlib/autogen/connector/); ki_fp_filters: TerminalBlock*:*; Supplier: ~
pins: 1 Pin_1, 2 Pin_2, 3 Pin_3, 4 Pin_4, 5 Pin_5, 6 Pin_6

## Screw_Terminal_01x07
designator *  value Screw_Terminal_01x07
ki_keywords: screw terminal; ki_description: Generic screw terminal, single row, 01x07, script generated (kicad-library-utils/schlib/autogen/connector/); ki_fp_filters: TerminalBlock*:*; Supplier: ~
pins: 1 Pin_1, 2 Pin_2, 3 Pin_3, 4 Pin_4, 5 Pin_5, 6 Pin_6, 7 Pin_7

## Screw_Terminal_01x08
designator *  value Screw_Terminal_01x08
ki_keywords: screw terminal; ki_description: Generic screw terminal, single row, 01x08, script generated (kicad-library-utils/schlib/autogen/connector/); ki_fp_filters: TerminalBlock*:*; Supplier: ~
pins: 1 Pin_1, 2 Pin_2, 3 Pin_3, 4 Pin_4, 5 Pin_5, 6 Pin_6, 7 Pin_7, 8 Pin_8

## Screw_Terminal_01x09
designator *  value Screw_Terminal_01x09
ki_keywords: screw terminal; ki_description: Generic screw terminal, single row, 01x09, script generated (kicad-library-utils/schlib/autogen/connector/); ki_fp_filters: TerminalBlock*:*; Supplier: ~
pins: 1 Pin_1, 2 Pin_2, 3 Pin_3, 4 Pin_4, 5 Pin_5, 6 Pin_6, 7 Pin_7, 8 Pin_8, 9 Pin_9

## Screw_Terminal_01x10
designator *  value Screw_Terminal_01x10
ki_keywords: screw terminal; ki_description: Generic screw terminal, single row, 01x10, script generated (kicad-library-utils/schlib/autogen/connector/); ki_fp_filters: TerminalBlock*:*; Supplier: ~
pins: 1 Pin_1, 2 Pin_2, 3 Pin_3, 4 Pin_4, 5 Pin_5, 6 Pin_6, 7 Pin_7, 8 Pin_8, 9 Pin_9, 10 Pin_10

## Screw_Terminal_01x11
designator *  value Screw_Terminal_01x11
ki_keywords: screw terminal; ki_description: Generic screw terminal, single row, 01x11, script generated (kicad-library-utils/schlib/autogen/connector/); ki_fp_filters: TerminalBlock*:*; Supplier: ~
pins: 1 Pin_1, 2 Pin_2, 3 Pin_3, 4 Pin_4, 5 Pin_5, 6 Pin_6, 7 Pin_7, 8 Pin_8, 9 Pin_9, 10 Pin_10, 11 Pin_11

## Screw_Terminal_01x12
designator *  value Screw_Terminal_01x12
ki_keywords: screw terminal; ki_description: Generic screw terminal, single row, 01x12, script generated (kicad-library-utils/schlib/autogen/connector/); ki_fp_filters: TerminalBlock*:*; Supplier: ~
pins: 1 Pin_1, 2 Pin_2, 3 Pin_3, 4 Pin_4, 5 Pin_5, 6 Pin_6, 7 Pin_7, 8 Pin_8, 9 Pin_9, 10 Pin_10, 11 Pin_11, 12 Pin_12

## Screw_Terminal_01x13
designator *  value Screw_Terminal_01x13
ki_keywords: screw terminal; ki_description: Generic screw terminal, single row, 01x13, script generated (kicad-library-utils/schlib/autogen/connector/); ki_fp_filters: TerminalBlock*:*; Supplier: ~
pins: 1 Pin_1, 2 Pin_2, 3 Pin_3, 4 Pin_4, 5 Pin_5, 6 Pin_6, 7 Pin_7, 8 Pin_8, 9 Pin_9, 10 Pin_10, 11 Pin_11, 12 Pin_12, 13 Pin_13

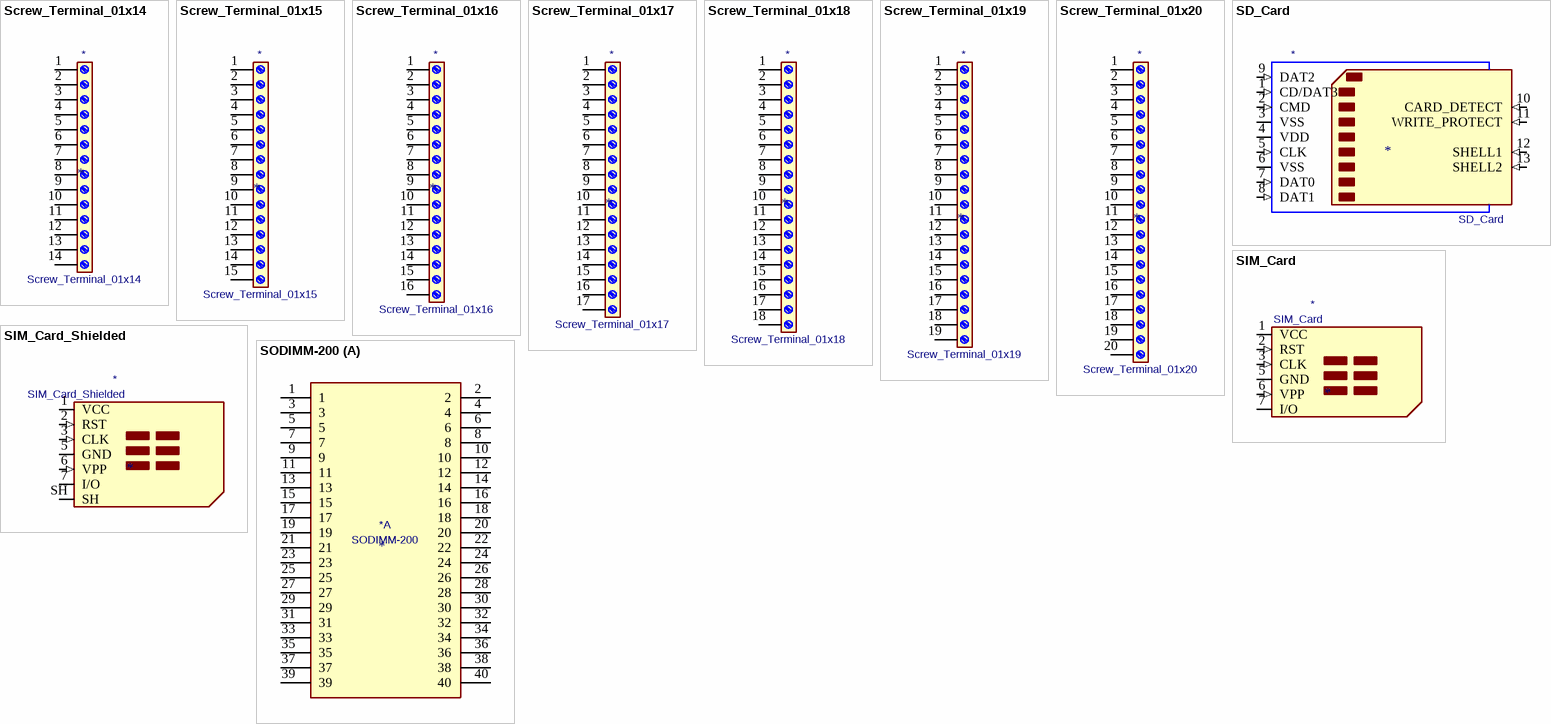
[diagram p12: symbols Screw_Terminal_01x14 to SODIMM-200]

## Screw_Terminal_01x14
designator *  value Screw_Terminal_01x14
ki_keywords: screw terminal; ki_description: Generic screw terminal, single row, 01x14, script generated (kicad-library-utils/schlib/autogen/connector/); ki_fp_filters: TerminalBlock*:*; Supplier: ~
pins: 1 Pin_1, 2 Pin_2, 3 Pin_3, 4 Pin_4, 5 Pin_5, 6 Pin_6, 7 Pin_7, 8 Pin_8, 9 Pin_9, 10 Pin_10, 11 Pin_11, 12 Pin_12, 13 Pin_13, 14 Pin_14

## Screw_Terminal_01x15
designator *  value Screw_Terminal_01x15
ki_keywords: screw terminal; ki_description: Generic screw terminal, single row, 01x15, script generated (kicad-library-utils/schlib/autogen/connector/); ki_fp_filters: TerminalBlock*:*; Supplier: ~
pins: 1 Pin_1, 2 Pin_2, 3 Pin_3, 4 Pin_4, 5 Pin_5, 6 Pin_6, 7 Pin_7, 8 Pin_8, 9 Pin_9, 10 Pin_10, 11 Pin_11, 12 Pin_12, 13 Pin_13, 14 Pin_14, 15 Pin_15

## Screw_Terminal_01x16
designator *  value Screw_Terminal_01x16
ki_keywords: screw terminal; ki_description: Generic screw terminal, single row, 01x16, script generated (kicad-library-utils/schlib/autogen/connector/); ki_fp_filters: TerminalBlock*:*; Supplier: ~
pins: 1 Pin_1, 2 Pin_2, 3 Pin_3, 4 Pin_4, 5 Pin_5, 6 Pin_6, 7 Pin_7, 8 Pin_8, 9 Pin_9, 10 Pin_10, 11 Pin_11, 12 Pin_12, 13 Pin_13, 14 Pin_14, 15 Pin_15, 16 Pin_16

## Screw_Terminal_01x17
designator *  value Screw_Terminal_01x17
ki_keywords: screw terminal; ki_description: Generic screw terminal, single row, 01x17, script generated (kicad-library-utils/schlib/autogen/connector/); ki_fp_filters: TerminalBlock*:*; Supplier: ~
pins: 1 Pin_1, 2 Pin_2, 3 Pin_3, 4 Pin_4, 5 Pin_5, 6 Pin_6, 7 Pin_7, 8 Pin_8, 9 Pin_9, 10 Pin_10, 11 Pin_11, 12 Pin_12, 13 Pin_13, 14 Pin_14, 15 Pin_15, 16 Pin_16, 17 Pin_17